# Altium schematic symbol library RPSLib.SchLib: 241 symbols (part 7 of 8)
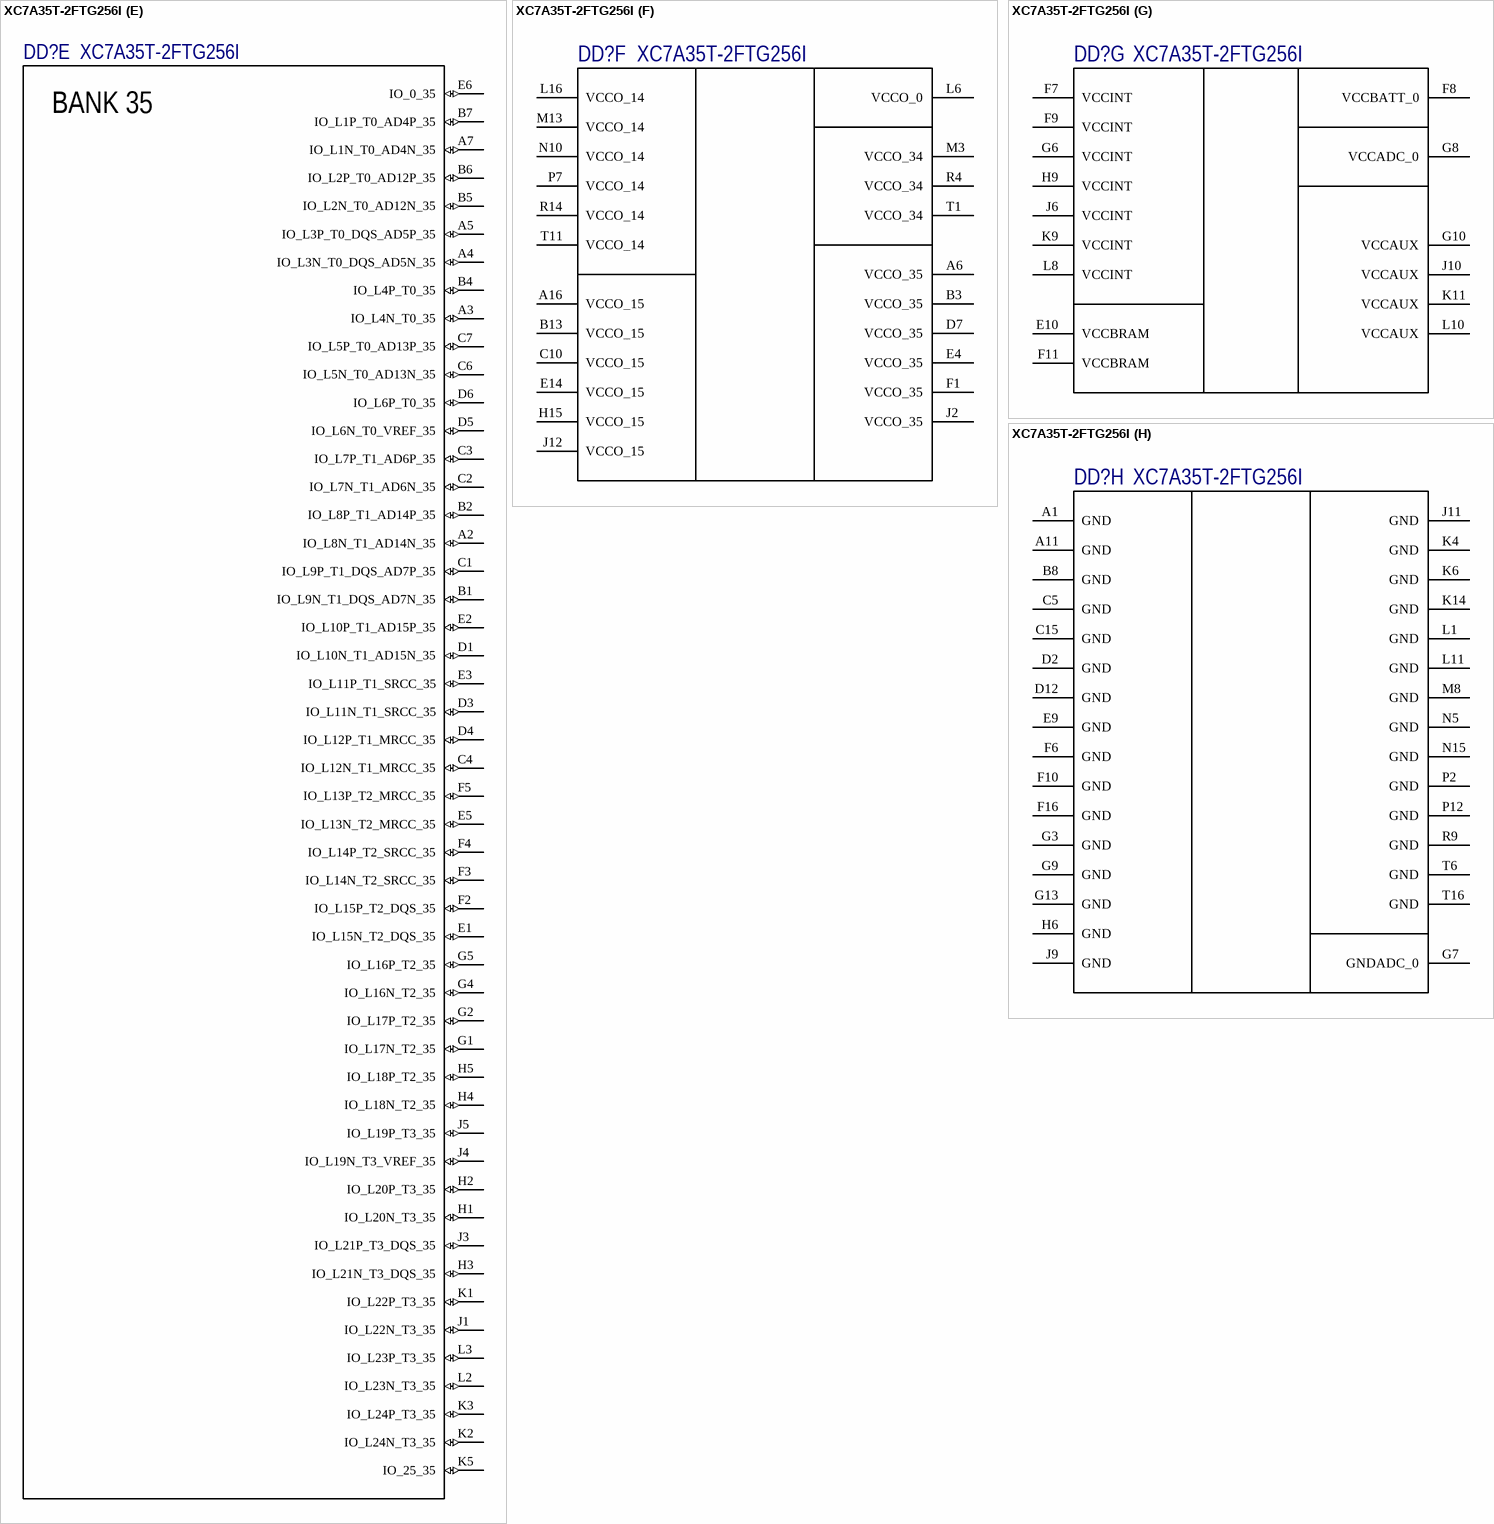
[diagram p31: symbol XC7A35T-2FTG256I]

## XC7A35T-2FTG256I
designator DD?
IC FPGA ARTIX7 170 I/O 256FTBGA; Manufacturer: Xilinx; Speed Grade: 2; Propagation Delay: 0.85ns; Number of Logic Blocks (LABs): 2600; Number of Logic Elements/Cells: 33280; RAM Size: 1843200b; Number of I/Os: 170; Min Supply Voltage: 950mV; Max Supply Voltage: 1.05V; Supplier 1: Digi-Key; Manufacturer Part Number: XC7A35T-2FTG256I; Stock 1: 1327; Pricing 1: 1=45.43 (USD); Case/Package: FBGA; Number of Pins: 256; Contact Plating: Copper,Tin,Silver; Min Operating Temperature: -40°C; Max Operating Temperature: 100°C; Turn-On Delay Time: 0.85ns; ComponentLink1URL: https://www.xilinx.com/support/documentation/data_sheets/ds180_7Series_Overview.pdf?src-supplier=Digi-Key; ComponentLink1Description: https://www.xilinx.com/support/documentation/data_sheets/ds180_7Series_Overview.pdf?src-supplier=Digi-Key; ComponentLink2URL: http://www.xilinx.com/support/documentation/data_sheets/ds181_Artix_7_Data_Sheet.pdf?src-supplier=Avnet; ComponentLink2Description: http://www.xilinx.com/support/documentation/data_sheets/ds181_Artix_7_Data_Sheet.pdf?src-supplier=Avnet; ComponentLink3URL: http://www.xilinx.com/support/documentation/data_sheets/ds181_Artix_7_Data_Sheet.pdf?src-supplier=Avnet+Asia; ComponentLink3Description: http://www.xilinx.com/support/documentation/data_sheets/ds181_Artix_7_Data_Sheet.pdf?src-supplier=Avnet+Asia; Supplier Part Number 1: 122-1912-ND
footprint BGA256C100P16X16_1700X1700X155 (BGA, 256-Leads, Body 17,00x17,00mmx1,55mm, Pitch 1,00mm)
part A pins: E7 CFGBVS_0 (in), E8 CCLK_0 (io), H7 VREFN_0 (in), H8 VP_0 (in), H10 DONE_0 (io), J7 VN_0 (in), J8 VREFP_0 (in), K7 DXN_0 (in), K8 DXP_0 (in), K10 INIT_B_0 (io), L7 TCK_0 (in), L9 PROGRAM_B_0 (in), M7 TMS_0 (in), M9 M0_0 (in), M10 M1_0 (in), M11 M2_0 (in), N7 TDI_0 (in), N8 TDO_0 (out)
part B pins: J13 IO_L1P_T0_D00_MOSI_14 (io), J14 IO_L1N_T0_D01_DIN_14 (io), K12 IO_0_14 (io), K13 IO_L5P_T0_D06_14 (io), K15 IO_L2P_T0_D02_14 (io), K16 IO_L2N_T0_D03_14 (io), L12 IO_L6P_T0_FCS_B_14 (io), L13 IO_L5N_T0_D07_14 (io), L14 IO_L4P_T0_D04_14 (io), L15 IO_L3P_T0_DQS_PUDC_B_14 (io), M6 IO_L19P_T3_A10_D26_14 (io), M12 IO_L6N_T0_D08_VREF_14 (io), M14 IO_L4N_T0_D05_14 (io), M15 IO_L3N_T0_DQS_EMCCLK_14 (io), M16 IO_L7P_T1_D09_14 (io), N6 IO_L19N_T3_A09_D25_VREF_14 (io), N9 IO_L18P_T2_A12_D28_14 (io), N11 IO_L13P_T2_MRCC_14 (io), N12 IO_L13N_T2_MRCC_14 (io), N13 IO_L11P_T1_SRCC_14 (io), N14 IO_L12P_T1_MRCC_14 (io), N16 IO_L7N_T1_D10_14 (io), P6 IO_25_14 (io), P8 IO_L20P_T3_A08_D24_14 (io), P9 IO_L18N_T2_A11_D27_14 (io), P10 IO_L14P_T2_SRCC_14 (io), P11 IO_L14N_T2_SRCC_14 (io), P13 IO_L11N_T1_SRCC_14 (io), P14 IO_L12N_T1_MRCC_14 (io), P15 IO_L8P_T1_D11_14 (io), P16 IO_L8N_T1_D12_14 (io), R5 IO_L23P_T3_A03_D19_14 (io), R6 IO_L24P_T3_A01_D17_14 (io), R7 IO_L24N_T3_A00_D16_14 (io), R8 IO_L20N_T3_A07_D23_14 (io), R10 IO_L17P_T2_A14_D30_14 (io), R11 IO_L17N_T2_A13_D29_14 (io), R12 IO_L15P_T2_DQS_RDWR_B_14 (io), R13 IO_L16P_T2_CSI_B_14 (io), R15 IO_L9P_T1_DQS_14 (io), R16 IO_L9N_T1_DQS_D13_14 (io), T5 IO_L23N_T3_A02_D18_14 (io), T7 IO_L21P_T3_DQS_14 (io), T8 IO_L21N_T3_DQS_A06_D22_14 (io), T9 IO_L22P_T3_A05_D21_14 (io), T10 IO_L22N_T3_A04_D20_14 (io), T12 IO_L15N_T2_DQS_DOUT_CSO_B_14 (io), T13 IO_L16N_T2_A15_D31_14 (io), T14 IO_L10P_T1_D14_14 (io), T15 IO_L10N_T1_D15_14 (io)
part C pins: A8 IO_L2P_T0_AD8P_15 (io), A9 IO_L2N_T0_AD8N_15 (io), A10 IO_L3N_T0_DQS_AD1N_15 (io), A12 IO_L5N_T0_AD9N_15 (io), A13 IO_L7P_T1_AD2P_15 (io), A14 IO_L7N_T1_AD2N_15 (io), A15 IO_L9N_T1_DQS_AD3N_15 (io), B9 IO_L3P_T0_DQS_AD1P_15 (io), B10 IO_L4P_T0_15 (io), B11 IO_L4N_T0_15 (io), B12 IO_L5P_T0_AD9P_15 (io), B14 IO_L8N_T1_AD10N_15 (io), B15 IO_L9P_T1_DQS_AD3P_15 (io), B16 IO_L10N_T1_AD11N_15 (io), C8 IO_L1P_T0_AD0P_15 (io), C9 IO_L1N_T0_AD0N_15 (io), C11 IO_L11P_T1_SRCC_15 (io), C12 IO_L11N_T1_SRCC_15 (io), C13 IO_L12N_T1_MRCC_15 (io), C14 IO_L8P_T1_AD10P_15 (io), C16 IO_L10P_T1_AD11P_15 (io), D8 IO_L6P_T0_15 (io), D9 IO_L6N_T0_VREF_15 (io), D10 IO_0_15 (io), D11 IO_L14N_T2_SRCC_15 (io), D13 IO_L12P_T1_MRCC_15 (io), D14 IO_L15P_T2_DQS_15 (io), D15 IO_L15N_T2_DQS_ADV_B_15 (io), D16 IO_L17N_T2_A25_15 (io), E11 IO_L14P_T2_SRCC_15 (io), E12 IO_L13P_T2_MRCC_15 (io), E13 IO_L13N_T2_MRCC_15 (io), E15 IO_L18N_T2_A23_15 (io), E16 IO_L17P_T2_A26_15 (io), F12 IO_L16P_T2_A28_15 (io), F13 IO_L16N_T2_A27_15 (io), F14 IO_L21N_T3_DQS_A18_15 (io), F15 IO_L18P_T2_A24_15 (io), G11 IO_25_15 (io), G12 IO_L19N_T3_A21_VREF_15 (io), G14 IO_L21P_T3_DQS_15 (io), G15 IO_L24N_T3_RS0_15 (io), G16 IO_L22N_T3_A16_15 (io), H11 IO_L19P_T3_A22_15 (io), H12 IO_L20P_T3_A20_15 (io), H13 IO_L20N_T3_A19_15 (io), H14 IO_L24P_T3_RS1_15 (io), H16 IO_L22P_T3_A17_15 (io), J15 IO_L23P_T3_FOE_B_15 (io), J16 IO_L23N_T3_FWE_B_15 (io)
part D pins: L4 IO_L1P_T0_34 (io), L5 IO_0_34 (io), M1 IO_L2N_T0_34 (io), M2 IO_L2P_T0_34 (io), M4 IO_L1N_T0_34 (io), M5 IO_L6P_T0_34 (io), N1 IO_L4P_T0_34 (io), N2 IO_L3N_T0_DQS_34 (io), N3 IO_L3P_T0_DQS_34 (io), N4 IO_L6N_T0_VREF_34 (io), P1 IO_L4N_T0_34 (io), P3 IO_L5N_T0_34 (io), P4 IO_L5P_T0_34 (io), P5 IO_L10P_T1_34 (io), R1 IO_L7N_T1_34 (io), R2 IO_L7P_T1_34 (io), R3 IO_L8P_T1_34 (io), T2 IO_L8N_T1_34 (io), T3 IO_L9N_T1_DQS_34 (io), T4 IO_L9P_T1_DQS_34 (io)
part E pins: A2 IO_L8N_T1_AD14N_35 (io), A3 IO_L4N_T0_35 (io), A4 IO_L3N_T0_DQS_AD5N_35 (io), A5 IO_L3P_T0_DQS_AD5P_35 (io), A7 IO_L1N_T0_AD4N_35 (io), B1 IO_L9N_T1_DQS_AD7N_35 (io), B2 IO_L8P_T1_AD14P_35 (io), B4 IO_L4P_T0_35 (io), B5 IO_L2N_T0_AD12N_35 (io), B6 IO_L2P_T0_AD12P_35 (io), B7 IO_L1P_T0_AD4P_35 (io), C1 IO_L9P_T1_DQS_AD7P_35 (io), C2 IO_L7N_T1_AD6N_35 (io), C3 IO_L7P_T1_AD6P_35 (io), C4 IO_L12N_T1_MRCC_35 (io), C6 IO_L5N_T0_AD13N_35 (io), C7 IO_L5P_T0_AD13P_35 (io), D1 IO_L10N_T1_AD15N_35 (io), D3 IO_L11N_T1_SRCC_35 (io), D4 IO_L12P_T1_MRCC_35 (io), D5 IO_L6N_T0_VREF_35 (io), D6 IO_L6P_T0_35 (io), E1 IO_L15N_T2_DQS_35 (io), E2 IO_L10P_T1_AD15P_35 (io), E3 IO_L11P_T1_SRCC_35 (io), E5 IO_L13N_T2_MRCC_35 (io), E6 IO_0_35 (io), F2 IO_L15P_T2_DQS_35 (io), F3 IO_L14N_T2_SRCC_35 (io), F4 IO_L14P_T2_SRCC_35 (io), F5 IO_L13P_T2_MRCC_35 (io), G1 IO_L17N_T2_35 (io), G2 IO_L17P_T2_35 (io), G4 IO_L16N_T2_35 (io), G5 IO_L16P_T2_35 (io), H1 IO_L20N_T3_35 (io), H2 IO_L20P_T3_35 (io), H3 IO_L21N_T3_DQS_35 (io), H4 IO_L18N_T2_35 (io), H5 IO_L18P_T2_35 (io), J1 IO_L22N_T3_35 (io), J3 IO_L21P_T3_DQS_35 (io), J4 IO_L19N_T3_VREF_35 (io), J5 IO_L19P_T3_35 (io), K1 IO_L22P_T3_35 (io), K2 IO_L24N_T3_35 (io), K3 IO_L24P_T3_35 (io), K5 IO_25_35 (io), L2 IO_L23N_T3_35 (io), L3 IO_L23P_T3_35 (io)
part F pins: A6 VCCO_35 (power), A16 VCCO_15 (power), B3 VCCO_35 (power), B13 VCCO_15 (power), C10 VCCO_15 (power), D7 VCCO_35 (power), E4 VCCO_35 (power), E14 VCCO_15 (power), F1 VCCO_35 (power), H15 VCCO_15 (power), J2 VCCO_35 (power), J12 VCCO_15 (power), L6 VCCO_0 (power), L16 VCCO_14 (power), M3 VCCO_34 (power), M13 VCCO_14 (power), N10 VCCO_14 (power), P7 VCCO_14 (power), R4 VCCO_34 (power), R14 VCCO_14 (power), T1 VCCO_34 (power), T11 VCCO_14 (power)
part G pins: E10 VCCBRAM (power), F7 VCCINT (power), F8 VCCBATT_0, F9 VCCINT (power), F11 VCCBRAM (power), G6 VCCINT (power), G8 VCCADC_0, G10 VCCAUX (power), H9 VCCINT (power), J6 VCCINT (power), J10 VCCAUX (power), K9 VCCINT (power), K11 VCCAUX (power), L8 VCCINT (power), L10 VCCAUX (power)
part H pins: A1 GND (power), A11 GND (power), B8 GND (power), C5 GND (power), C15 GND (power), D2 GND (power), D12 GND (power), E9 GND (power), F6 GND (power), F10 GND (power), F16 GND (power), G3 GND (power), G7 GNDADC_0, G9 GND (power), G13 GND (power), H6 GND (power), J9 GND (power), J11 GND (power), K4 GND (power), K6 GND (power), K14 GND (power), L1 GND (power), L11 GND (power), M8 GND (power), N5 GND (power), N15 GND (power), P2 GND (power), P12 GND (power), R9 GND (power), T6 GND (power), T16 GND (power)
part B text: BANK 14
part C text: BANK 15
part D text: BANK 34
part E text: BANK 35

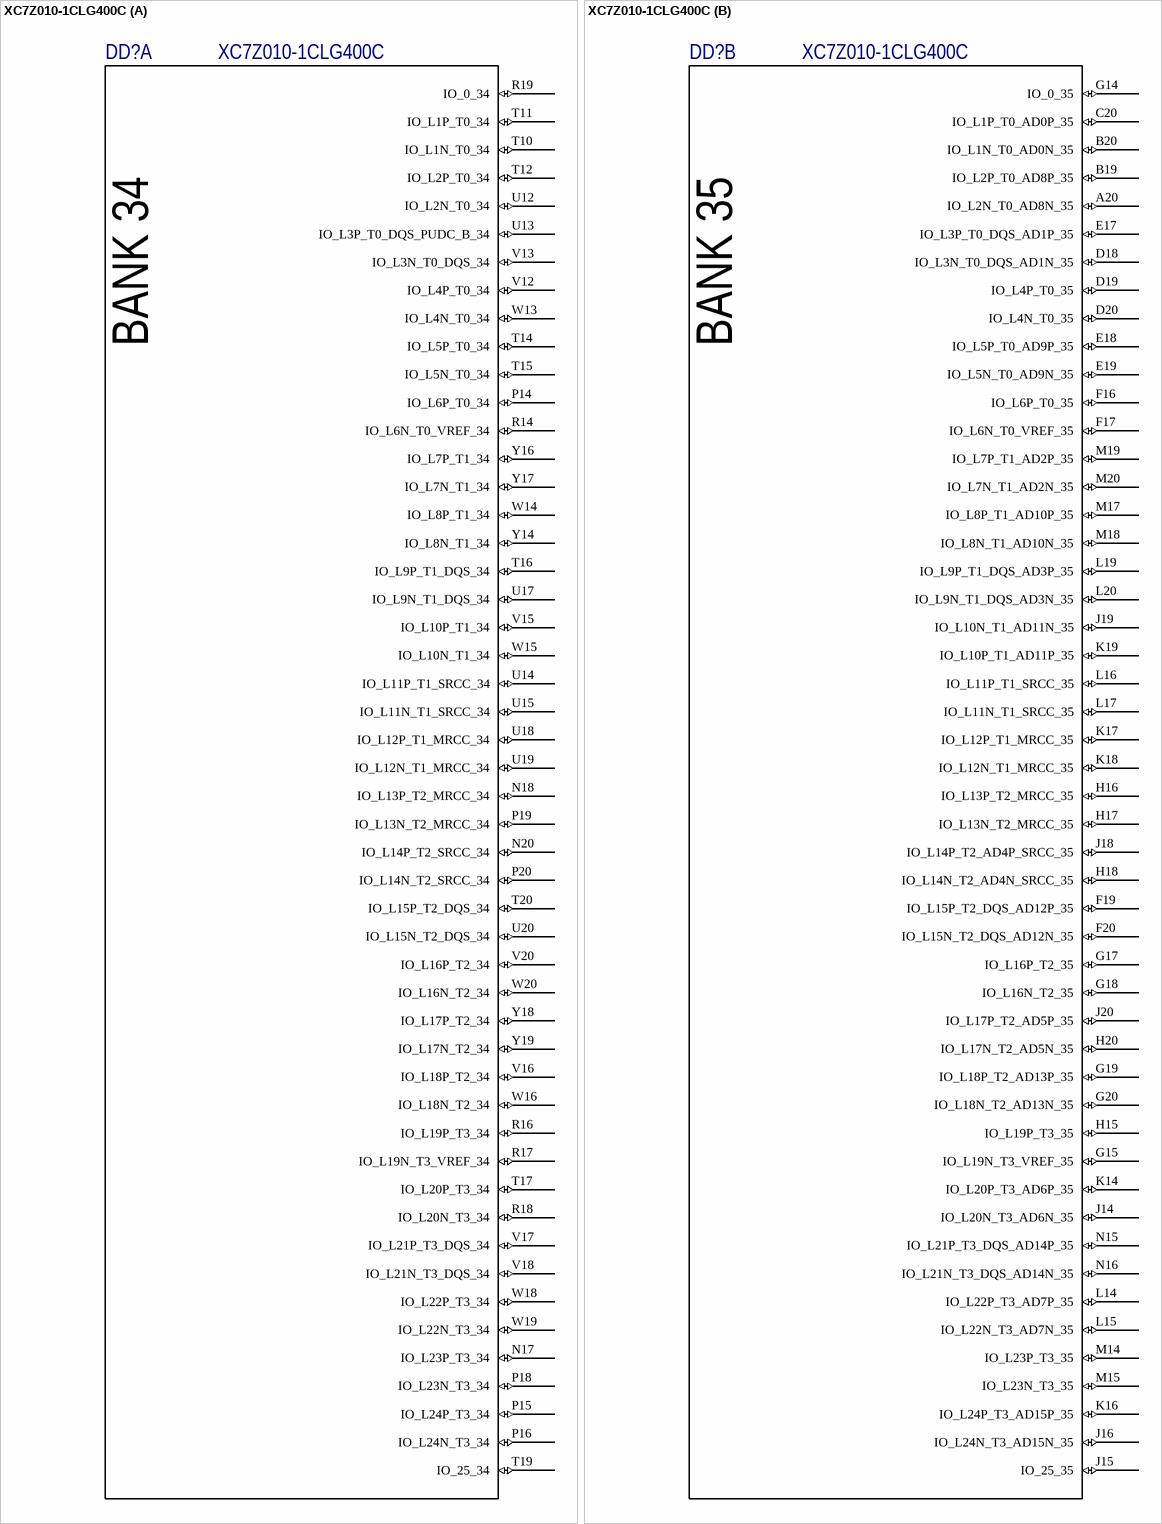
[diagram p15: symbol XC7Z010-1CLG400C]

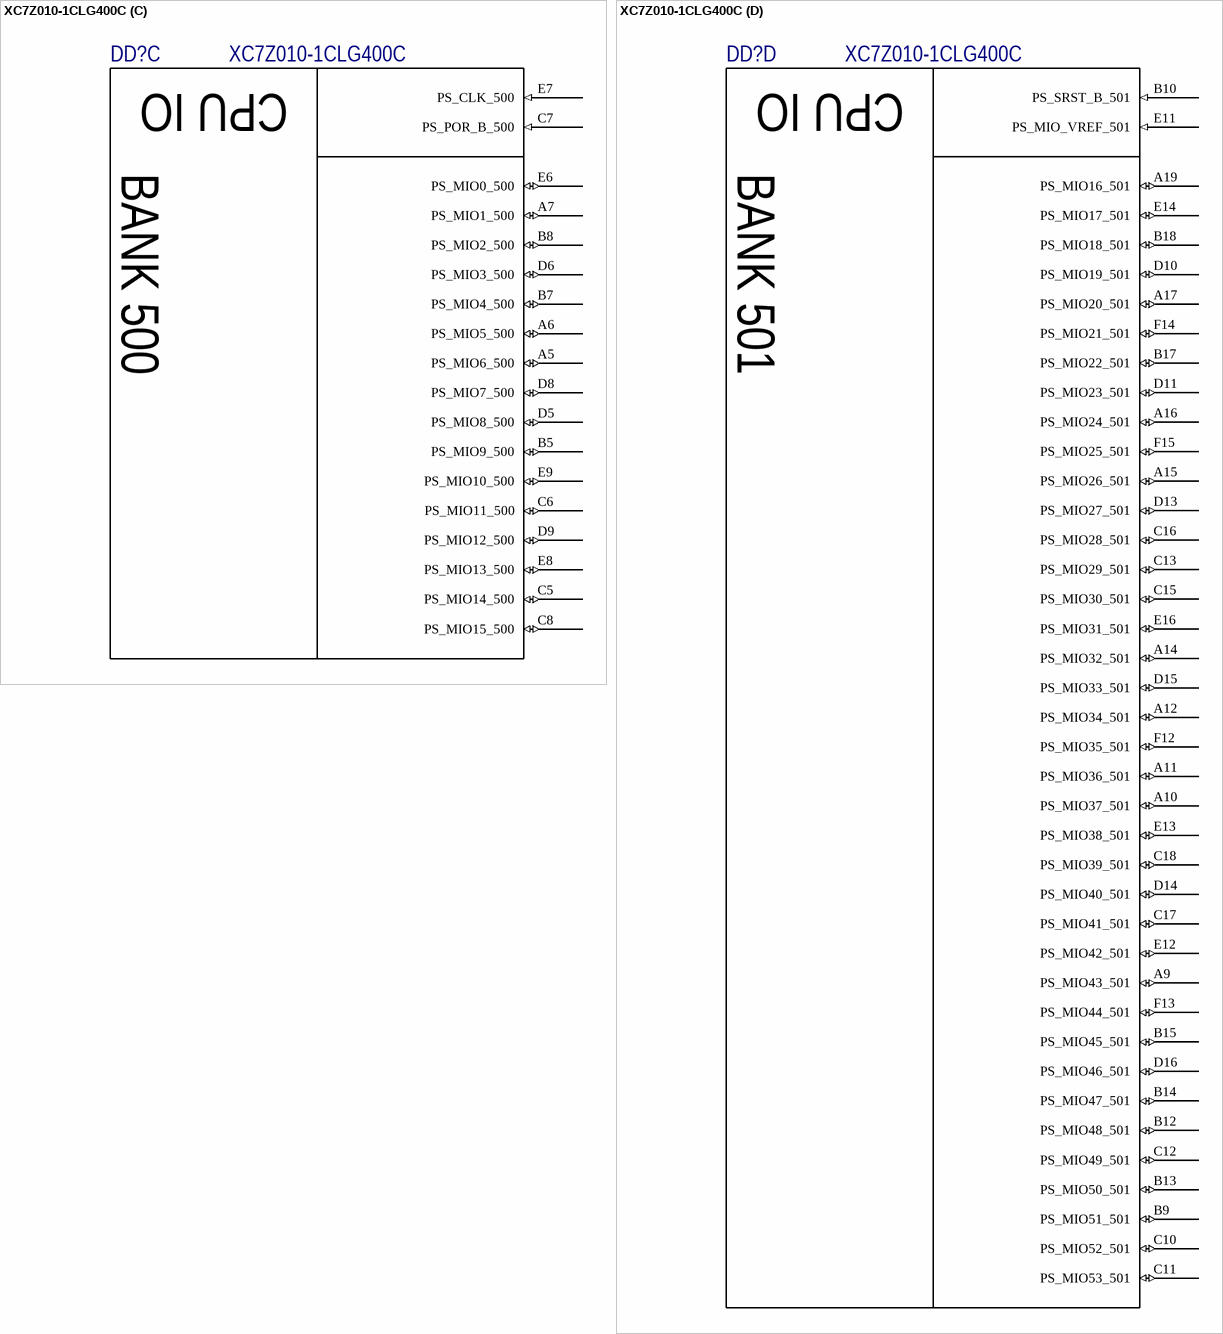
[diagram p16: symbol XC7Z010-1CLG400C]

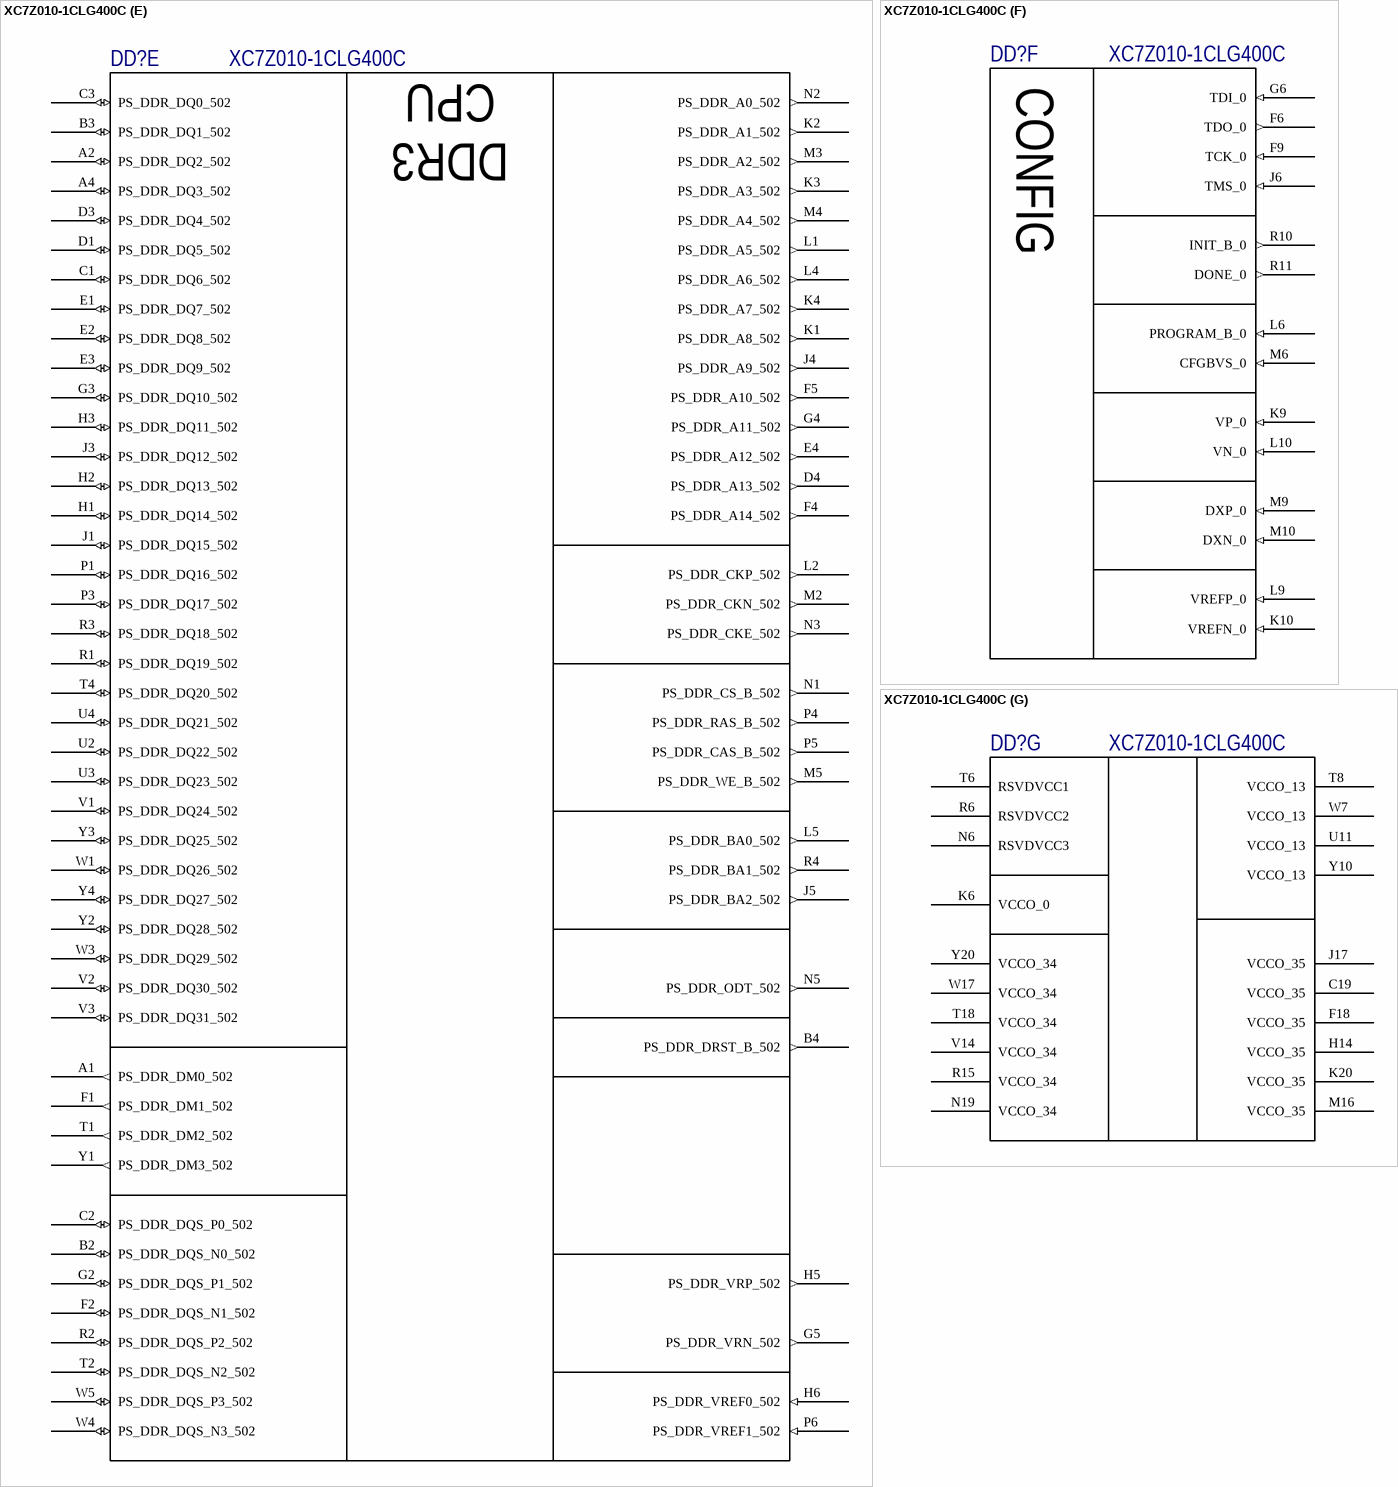
[diagram p17: symbol XC7Z010-1CLG400C]

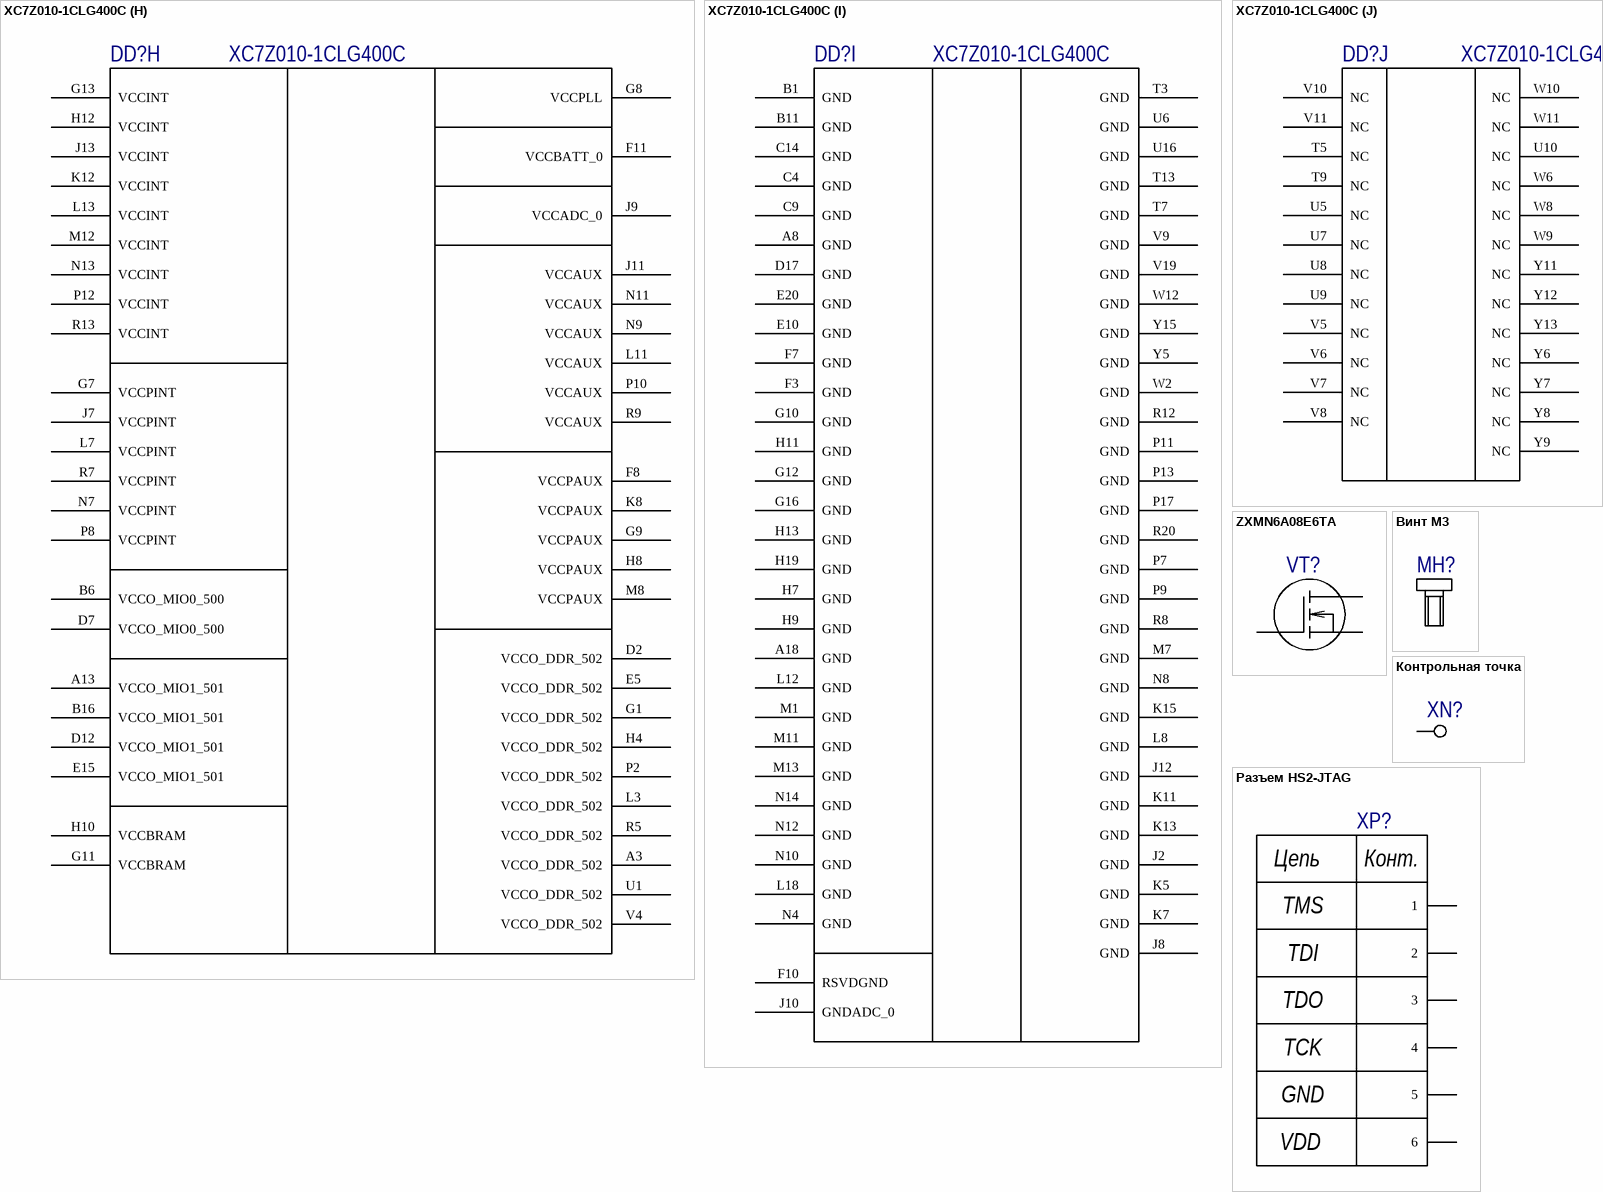
[diagram p18: symbols XC7Z010-1CLG400C to Разъем HS2-JTAG]

## XC7Z010-1CLG400C
designator DD?
IC SOC CORTEX-A9 ARTIX-7 400BGA; Manufacturer: Xilinx; Speed Grade: -1; Interface: I2C,SPI,USB,CAN,Ethernet,MMC,SDIO,SD,UART,USART,EBI/EMI; Frequency: 667MHz; Number of I/Os: 130; Data Bus Width: 32b; Peripherals: DMA; Core Architecture: ARM; Operating Supply Voltage: 1V; Supplier 1: Digi-Key; Manufacturer Part Number: XC7Z010-1CLG400C; RoHS: Yes; Category: FPGAs - Field Programmable Gate Arrays; Stock 1: 573; Pricing 1: 1=62,79000 (USD); Case/Package: BGA; Number of Pins: 400; Contact Plating: Copper,Tin,Silver; Min Operating Temperature: 0°C; Max Operating Temperature: 85°C; Packaging: Tray; Max Frequency: 667MHz; Radiation Hardening: No; ComponentLink1URL: https://datasheet.ciiva.com/48476/ds190-zynq-7000-overview-48476701.pdf?src-supplier=Avnet; ComponentLink1Description: https://datasheet.ciiva.com/48476/ds190-zynq-7000-overview-48476701.pdf?src-supplier=Avnet; Supplier Part Number 1: 122-1854-ND
footprint BGA400C80P20X20_1700X1700X160 (BGA, 400-Leads, Body 17,00x17,00mmx1,60mm, Pitch 0,80mm)
part A pins: N17 IO_L23P_T3_34 (io), N18 IO_L13P_T2_MRCC_34 (io), N20 IO_L14P_T2_SRCC_34 (io), P14 IO_L6P_T0_34 (io), P15 IO_L24P_T3_34 (io), P16 IO_L24N_T3_34 (io), P18 IO_L23N_T3_34 (io), P19 IO_L13N_T2_MRCC_34 (io), P20 IO_L14N_T2_SRCC_34 (io), R14 IO_L6N_T0_VREF_34 (io), R16 IO_L19P_T3_34 (io), R17 IO_L19N_T3_VREF_34 (io), R18 IO_L20N_T3_34 (io), R19 IO_0_34 (io), T10 IO_L1N_T0_34 (io), T11 IO_L1P_T0_34 (io), T12 IO_L2P_T0_34 (io), T14 IO_L5P_T0_34 (io), T15 IO_L5N_T0_34 (io), T16 IO_L9P_T1_DQS_34 (io), T17 IO_L20P_T3_34 (io), T19 IO_25_34 (io), T20 IO_L15P_T2_DQS_34 (io), U12 IO_L2N_T0_34 (io), U13 IO_L3P_T0_DQS_PUDC_B_34 (io), U14 IO_L11P_T1_SRCC_34 (io), U15 IO_L11N_T1_SRCC_34 (io), U17 IO_L9N_T1_DQS_34 (io), U18 IO_L12P_T1_MRCC_34 (io), U19 IO_L12N_T1_MRCC_34 (io), U20 IO_L15N_T2_DQS_34 (io), V12 IO_L4P_T0_34 (io), V13 IO_L3N_T0_DQS_34 (io), V15 IO_L10P_T1_34 (io), V16 IO_L18P_T2_34 (io), V17 IO_L21P_T3_DQS_34 (io), V18 IO_L21N_T3_DQS_34 (io), V20 IO_L16P_T2_34 (io), W13 IO_L4N_T0_34 (io), W14 IO_L8P_T1_34 (io), W15 IO_L10N_T1_34 (io), W16 IO_L18N_T2_34 (io), W18 IO_L22P_T3_34 (io), W19 IO_L22N_T3_34 (io), W20 IO_L16N_T2_34 (io), Y14 IO_L8N_T1_34 (io), Y16 IO_L7P_T1_34 (io), Y17 IO_L7N_T1_34 (io), Y18 IO_L17P_T2_34 (io), Y19 IO_L17N_T2_34 (io)
part B pins: A20 IO_L2N_T0_AD8N_35 (io), B19 IO_L2P_T0_AD8P_35 (io), B20 IO_L1N_T0_AD0N_35 (io), C20 IO_L1P_T0_AD0P_35 (io), D18 IO_L3N_T0_DQS_AD1N_35 (io), D19 IO_L4P_T0_35 (io), D20 IO_L4N_T0_35 (io), E17 IO_L3P_T0_DQS_AD1P_35 (io), E18 IO_L5P_T0_AD9P_35 (io), E19 IO_L5N_T0_AD9N_35 (io), F16 IO_L6P_T0_35 (io), F17 IO_L6N_T0_VREF_35 (io), F19 IO_L15P_T2_DQS_AD12P_35 (io), F20 IO_L15N_T2_DQS_AD12N_35 (io), G14 IO_0_35 (io), G15 IO_L19N_T3_VREF_35 (io), G17 IO_L16P_T2_35 (io), G18 IO_L16N_T2_35 (io), G19 IO_L18P_T2_AD13P_35 (io), G20 IO_L18N_T2_AD13N_35 (io), H15 IO_L19P_T3_35 (io), H16 IO_L13P_T2_MRCC_35 (io), H17 IO_L13N_T2_MRCC_35 (io), H18 IO_L14N_T2_AD4N_SRCC_35 (io), H20 IO_L17N_T2_AD5N_35 (io), J14 IO_L20N_T3_AD6N_35 (io), J15 IO_25_35 (io), J16 IO_L24N_T3_AD15N_35 (io), J18 IO_L14P_T2_AD4P_SRCC_35 (io), J19 IO_L10N_T1_AD11N_35 (io), J20 IO_L17P_T2_AD5P_35 (io), K14 IO_L20P_T3_AD6P_35 (io), K16 IO_L24P_T3_AD15P_35 (io), K17 IO_L12P_T1_MRCC_35 (io), K18 IO_L12N_T1_MRCC_35 (io), K19 IO_L10P_T1_AD11P_35 (io), L14 IO_L22P_T3_AD7P_35 (io), L15 IO_L22N_T3_AD7N_35 (io), L16 IO_L11P_T1_SRCC_35 (io), L17 IO_L11N_T1_SRCC_35 (io), L19 IO_L9P_T1_DQS_AD3P_35 (io), L20 IO_L9N_T1_DQS_AD3N_35 (io), M14 IO_L23P_T3_35 (io), M15 IO_L23N_T3_35 (io), M17 IO_L8P_T1_AD10P_35 (io), M18 IO_L8N_T1_AD10N_35 (io), M19 IO_L7P_T1_AD2P_35 (io), M20 IO_L7N_T1_AD2N_35 (io), N15 IO_L21P_T3_DQS_AD14P_35 (io), N16 IO_L21N_T3_DQS_AD14N_35 (io)
part C pins: A5 PS_MIO6_500 (io), A6 PS_MIO5_500 (io), A7 PS_MIO1_500 (io), B5 PS_MIO9_500 (io), B7 PS_MIO4_500 (io), B8 PS_MIO2_500 (io), C5 PS_MIO14_500 (io), C6 PS_MIO11_500 (io), C7 PS_POR_B_500 (in), C8 PS_MIO15_500 (io), D5 PS_MIO8_500 (io), D6 PS_MIO3_500 (io), D8 PS_MIO7_500 (io), D9 PS_MIO12_500 (io), E6 PS_MIO0_500 (io), E7 PS_CLK_500 (in), E8 PS_MIO13_500 (io), E9 PS_MIO10_500 (io)
part D pins: A9 PS_MIO43_501 (io), A10 PS_MIO37_501 (io), A11 PS_MIO36_501 (io), A12 PS_MIO34_501 (io), A14 PS_MIO32_501 (io), A15 PS_MIO26_501 (io), A16 PS_MIO24_501 (io), A17 PS_MIO20_501 (io), A19 PS_MIO16_501 (io), B9 PS_MIO51_501 (io), B10 PS_SRST_B_501 (in), B12 PS_MIO48_501 (io), B13 PS_MIO50_501 (io), B14 PS_MIO47_501 (io), B15 PS_MIO45_501 (io), B17 PS_MIO22_501 (io), B18 PS_MIO18_501 (io), C10 PS_MIO52_501 (io), C11 PS_MIO53_501 (io), C12 PS_MIO49_501 (io), C13 PS_MIO29_501 (io), C15 PS_MIO30_501 (io), C16 PS_MIO28_501 (io), C17 PS_MIO41_501 (io), C18 PS_MIO39_501 (io), D10 PS_MIO19_501 (io), D11 PS_MIO23_501 (io), D13 PS_MIO27_501 (io), D14 PS_MIO40_501 (io), D15 PS_MIO33_501 (io), D16 PS_MIO46_501 (io), E11 PS_MIO_VREF_501 (in), E12 PS_MIO42_501 (io), E13 PS_MIO38_501 (io), E14 PS_MIO17_501 (io), E16 PS_MIO31_501 (io), F12 PS_MIO35_501 (io), F13 PS_MIO44_501 (io), F14 PS_MIO21_501 (io), F15 PS_MIO25_501 (io)
part E pins: A1 PS_DDR_DM0_502 (out), A2 PS_DDR_DQ2_502 (io), A4 PS_DDR_DQ3_502 (io), B2 PS_DDR_DQS_N0_502 (io), B3 PS_DDR_DQ1_502 (io), B4 PS_DDR_DRST_B_502 (out), C1 PS_DDR_DQ6_502 (io), C2 PS_DDR_DQS_P0_502 (io), C3 PS_DDR_DQ0_502 (io), D1 PS_DDR_DQ5_502 (io), D3 PS_DDR_DQ4_502 (io), D4 PS_DDR_A13_502 (out), E1 PS_DDR_DQ7_502 (io), E2 PS_DDR_DQ8_502 (io), E3 PS_DDR_DQ9_502 (io), E4 PS_DDR_A12_502 (out), F1 PS_DDR_DM1_502 (out), F2 PS_DDR_DQS_N1_502 (io), F4 PS_DDR_A14_502 (out), F5 PS_DDR_A10_502 (out), G2 PS_DDR_DQS_P1_502 (io), G3 PS_DDR_DQ10_502 (io), G4 PS_DDR_A11_502 (out), G5 PS_DDR_VRN_502 (out), H1 PS_DDR_DQ14_502 (io), H2 PS_DDR_DQ13_502 (io), H3 PS_DDR_DQ11_502 (io), H5 PS_DDR_VRP_502 (out), H6 PS_DDR_VREF0_502 (in), J1 PS_DDR_DQ15_502 (io), J3 PS_DDR_DQ12_502 (io), J4 PS_DDR_A9_502 (out), J5 PS_DDR_BA2_502 (out), K1 PS_DDR_A8_502 (out), K2 PS_DDR_A1_502 (out), K3 PS_DDR_A3_502 (out), K4 PS_DDR_A7_502 (out), L1 PS_DDR_A5_502 (out), L2 PS_DDR_CKP_502 (out), L4 PS_DDR_A6_502 (out), L5 PS_DDR_BA0_502 (out), M2 PS_DDR_CKN_502 (out), M3 PS_DDR_A2_502 (out), M4 PS_DDR_A4_502 (out), M5 PS_DDR_WE_B_502 (out), N1 PS_DDR_CS_B_502 (out), N2 PS_DDR_A0_502 (out), N3 PS_DDR_CKE_502 (out), N5 PS_DDR_ODT_502 (out), P1 PS_DDR_DQ16_502 (io), P3 PS_DDR_DQ17_502 (io), P4 PS_DDR_RAS_B_502 (out), P5 PS_DDR_CAS_B_502 (out), P6 PS_DDR_VREF1_502 (in), R1 PS_DDR_DQ19_502 (io), R2 PS_DDR_DQS_P2_502 (io), R3 PS_DDR_DQ18_502 (io), R4 PS_DDR_BA1_502 (out), T1 PS_DDR_DM2_502 (out), T2 PS_DDR_DQS_N2_502 (io), T4 PS_DDR_DQ20_502 (io), U2 PS_DDR_DQ22_502 (io), U3 PS_DDR_DQ23_502 (io), U4 PS_DDR_DQ21_502 (io), V1 PS_DDR_DQ24_502 (io), V2 PS_DDR_DQ30_502 (io), V3 PS_DDR_DQ31_502 (io), W1 PS_DDR_DQ26_502 (io), W3 PS_DDR_DQ29_502 (io), W4 PS_DDR_DQS_N3_502 (io), W5 PS_DDR_DQS_P3_502 (io), Y1 PS_DDR_DM3_502 (out), Y2 PS_DDR_DQ28_502 (io), Y3 PS_DDR_DQ25_502 (io), Y4 PS_DDR_DQ27_502 (io)
part F pins: F6 TDO_0 (out), F9 TCK_0 (in), G6 TDI_0 (in), J6 TMS_0 (in), K9 VP_0 (in), K10 VREFN_0 (in), L6 PROGRAM_B_0 (in), L9 VREFP_0 (in), L10 VN_0 (in), M6 CFGBVS_0 (in), M9 DXP_0 (in), M10 DXN_0 (in), R10 INIT_B_0 (out), R11 DONE_0 (out)
part G pins: C19 VCCO_35 (power), F18 VCCO_35 (power), H14 VCCO_35 (power), J17 VCCO_35 (power), K6 VCCO_0 (power), K20 VCCO_35 (power), M16 VCCO_35 (power), N6 RSVDVCC3 (power), N19 VCCO_34 (power), R6 RSVDVCC2 (power), R15 VCCO_34 (power), T6 RSVDVCC1 (power), T8 VCCO_13 (power), T18 VCCO_34 (power), U11 VCCO_13 (power), V14 VCCO_34 (power), W7 VCCO_13 (power), W17 VCCO_34 (power), Y10 VCCO_13 (power), Y20 VCCO_34 (power)
part H pins: A3 VCCO_DDR_502 (power), A13 VCCO_MIO1_501 (power), B6 VCCO_MIO0_500 (power), B16 VCCO_MIO1_501 (power), D2 VCCO_DDR_502 (power), D7 VCCO_MIO0_500 (power), D12 VCCO_MIO1_501 (power), E5 VCCO_DDR_502 (power), E15 VCCO_MIO1_501 (power), F8 VCCPAUX (power), F11 VCCBATT_0 (power), G1 VCCO_DDR_502 (power), G7 VCCPINT (power), G8 VCCPLL (power), G9 VCCPAUX (power), G11 VCCBRAM (power), G13 VCCINT (power), H4 VCCO_DDR_502 (power), H8 VCCPAUX (power), H10 VCCBRAM (power), H12 VCCINT (power), J7 VCCPINT (power), J9 VCCADC_0 (power), J11 VCCAUX (power), J13 VCCINT (power), K8 VCCPAUX (power), K12 VCCINT (power), L3 VCCO_DDR_502 (power), L7 VCCPINT (power), L11 VCCAUX (power), L13 VCCINT (power), M8 VCCPAUX (power), M12 VCCINT (power), N7 VCCPINT (power), N9 VCCAUX (power), N11 VCCAUX (power), N13 VCCINT (power), P2 VCCO_DDR_502 (power), P8 VCCPINT (power), P10 VCCAUX (power), P12 VCCINT (power), R5 VCCO_DDR_502 (power), R7 VCCPINT (power), R9 VCCAUX (power), R13 VCCINT (power), U1 VCCO_DDR_502 (power), V4 VCCO_DDR_502 (power)
part I pins: A8 GND (power), A18 GND (power), B1 GND (power), B11 GND (power), C4 GND (power), C9 GND (power), C14 GND (power), D17 GND (power), E10 GND (power), E20 GND (power), F3 GND (power), F7 GND (power), F10 RSVDGND, G10 GND (power), G12 GND (power), G16 GND (power), H7 GND (power), H9 GND (power), H11 GND (power), H13 GND (power), H19 GND (power), J2 GND (power), J8 GND (power), J10 GNDADC_0, J12 GND (power), K5 GND (power), K7 GND (power), K11 GND (power), K13 GND (power), K15 GND (power), L8 GND (power), L12 GND (power), L18 GND (power), M1 GND (power), M7 GND (power), M11 GND (power), M13 GND (power), N4 GND (power), N8 GND (power), N10 GND (power), N12 GND (power), N14 GND (power), P7 GND (power), P9 GND (power), P11 GND (power), P13 GND (power), P17 GND (power), R8 GND (power), R12 GND (power), R20 GND (power), T3 GND (power), T7 GND (power), T13 GND (power), U6 GND (power), U16 GND (power), V9 GND (power), V19 GND (power), W2 GND (power), W12 GND (power), Y5 GND (power), Y15 GND (power)
part J pins: T5 NC, T9 NC, U5 NC, U7 NC, U8 NC, U9 NC, U10 NC, V5 NC, V6 NC, V7 NC, V8 NC, V10 NC, V11 NC, W6 NC, W8 NC, W9 NC, W10 NC, W11 NC, Y6 NC, Y7 NC, Y8 NC, Y9 NC, Y11 NC, Y12 NC, Y13 NC
part A text: BANK 34
part B text: BANK 35
part C text: CPU IO; BANK 500
part D text: CPU IO; BANK 501
part E text: CPU; DDR3
part F text: CONFIG

## ZXMN6A08E6TA
designator VT?  (value not drawn)
MOSFET N-CH 60V 2.8A SOT23-6; Manufacturer: Diodes Zetex; Rise Time: 2.1ns; Continuous Drain Current (ID): 3.5A; Gate to Source Voltage (Vgs): 20V; Turn-Off Delay Time: 12.3ns; Turn-On Delay Time: 2.6ns; Rds On Max: 80mR; Input Capacitance: 459pF; Number of Elements: 1; Max Power Dissipation: 1.1W; Drain to Source Resistance: 150mR; Power Dissipation: 1.7W; Element Configuration: Single; Current Rating: 2.5A; Supplier 1: Digi-Key; Manufacturer Part Number: ZXMN6A08E6TA; RoHS: Yes; Category: MOSFETs; Stock 1: 106764; Pricing 1: 1=0,82000, 10=0,72100, 25=0,67720, 100=0,49140, 250=0,47392, 500=0,41060, 1000=0,34944 (USD); Mount: Surface Mount; Case/Package: SOT-23-6; Number of Pins: 6; Weight: 0.000529oz; Min Operating Temperature: -55°C; Max Operating Temperature: 150°C; Fall Time: 2.1ns; Package Quantity: 3000; Packaging: Tape and Reel; Number of Channels: 1; Drain to Source Voltage (Vdss): 60V; On-State Resistance: 80mR; Voltage Rating (DC): 60V; Drain to Source Breakdown Voltage: 60V; Length: 3.1mm; Height: 1.3mm; Width: 1.8mm; Radiation Hardening: No; Lead Free: Lead Free; REACH SVHC: No SVHC; ComponentLink1URL: https://datasheet.ciiva.com/16993/0900766b80d2ef9f-16993634.pdf?src-supplier=Allied+Electronics; ComponentLink1Description: https://datasheet.ciiva.com/16993/0900766b80d2ef9f-16993634.pdf?src-supplier=Allied+Electronics; ComponentLink2URL: https://datasheet.ciiva.com/16386/zxmn6a08e6-16386230.pdf?src-supplier=Future+Electronics; ComponentLink2Description: https://datasheet.ciiva.com/16386/zxmn6a08e6-16386230.pdf?src-supplier=Future+Electronics; ComponentLink3URL: https://datasheet.ciiva.com/935/zxmn6a08e6-935608.pdf?src-supplier=Digi-Key; ComponentLink3Description: https://datasheet.ciiva.com/935/zxmn6a08e6-935608.pdf?src-supplier=Digi-Key; ComponentLink4URL: https://datasheet.ciiva.com/935/zxmn6a08e6-935609.pdf?src-supplier=Digi-Key; ComponentLink4Description: https://datasheet.ciiva.com/935/zxmn6a08e6-935609.pdf?src-supplier=Digi-Key; ComponentLink5URL: https://datasheet.ciiva.com/935/zxmn6a08e6-935610.pdf?src-supplier=Digi-Key; ComponentLink5Description: https://datasheet.ciiva.com/935/zxmn6a08e6-935610.pdf?src-supplier=Digi-Key; Supplier Part Number 1: ZXMN6A08E6CT-ND
footprint SOT95P280X110-6N_ZXMN6A08 (SOT23, 6-Leads, Body 2,90x2,80mm, Pitch 0,95mm, IPC Medium Density)
pins: D, G, S
1 alternate drawing of the same symbol

## Винт М3
designator MH?  (value not drawn)
footprint Винт М3

## Контрольная точка
designator XN?  (value not drawn)  (no BOM)
footprint ControlPoint_1.0 (Контрольная точка d 1.0)
footprint ControlPoint_1.5 (Контрольная точка d 1.5)
footprint ControlPoint_2.0 (Контрольная точка d 2.0)
pins: 1

## Разъем HS2-JTAG
designator XP?
Digilent PMOD разъем. 1 ряд, 6 контактов; Manufacturer: *; Manufacturer Part Number: *
footprint PMOD-6 (Digilent PMOD connector 6 pin)
pins: 1, 2, 3, 4, 5, 6
text: Цепь; Конт.; TMS; TDI; TDO; TCK; GND; VDD

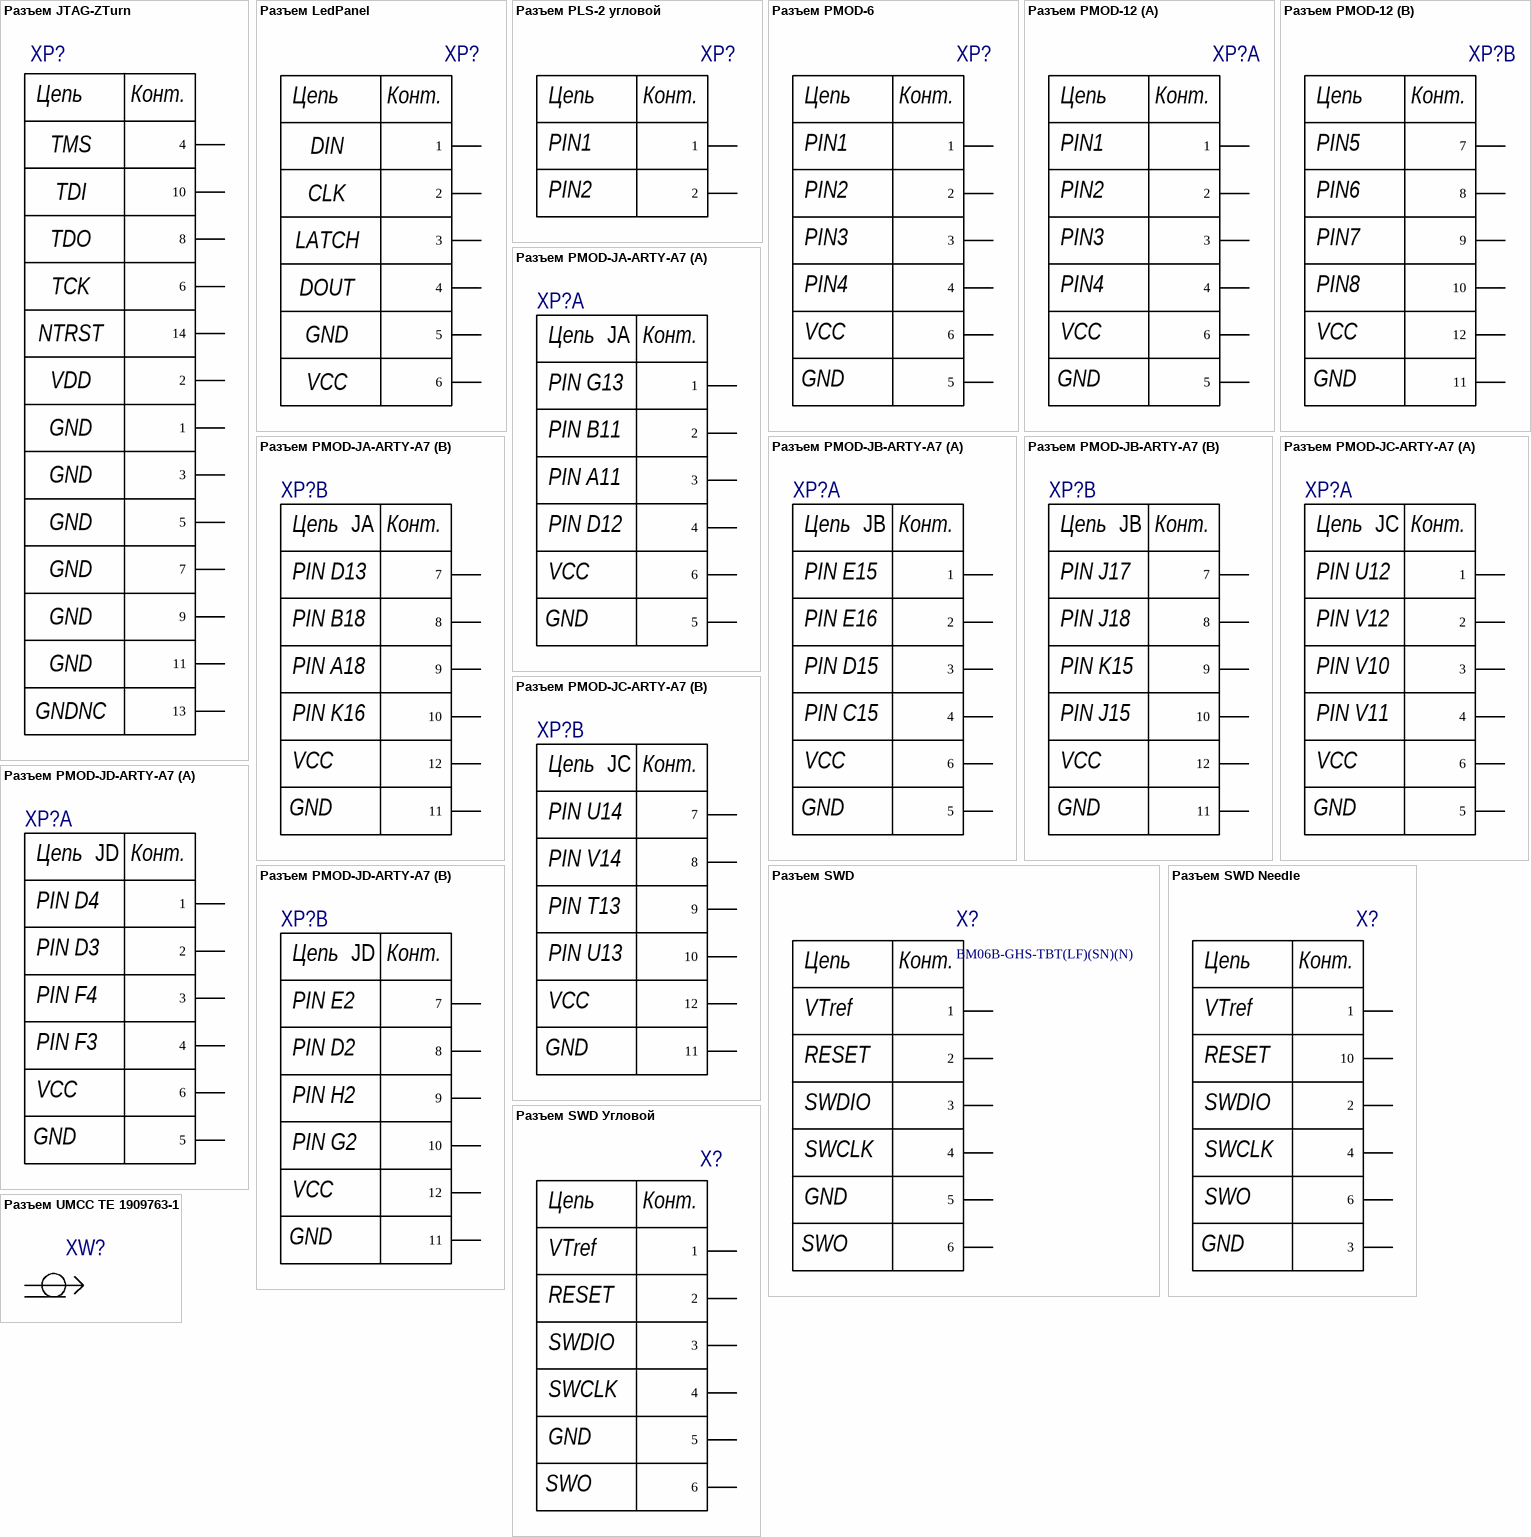
[diagram p19: symbols Разъем JTAG-ZTurn to Разъем UMCC TE 1909763-1]

## Разъем JTAG-ZTurn
designator XP?
Разъем для печатающей головы; Max Current Rating: 3A; Number of Positions: 20; Max Voltage Rating (AC): 50V; Pitch: 0.100inch; Supplier 1: Digi-Key; Min Operating Temperature: -25°C; Max Operating Temperature: 85°C; Number of Rows: 2
footprint IDC-14 (2.54 мм разъем)
pins: 1, 2, 3, 4 (power), 5, 6, 7, 8, 9, 10 (power), 11 (power), 13 (power), 14
text: Цепь; Конт.; TMS; TDI; TDO; TCK; NTRST; VDD; GND; GNDNC

## Разъем LedPanel
designator XP?, comment BM06B-SRSS-TB(LF)(SN)  (value not drawn)
1 mm Pitch 6 Position SMT Single Row Top Entry Shrouded Header; Manufacturer: JST; Number of Positions: 6; Connector Type: Male Pin; Contact Resistance: 20mR; Current Rating: 1A; Voltage Rating (AC): 50V; Insulation Resistance: 100MR; Gender: Male; Pitch: 0.039inch; Supplier 1: Digi-Key; Manufacturer Part Number: BM06B-SRSS-TB(LF)(SN); RoHS: Yes; Category: Connectors; Stock 1: 15679; Pricing 1: 1=0,76000, 10=0,67200, 100=0,57970, 500=0,47428 (USD); Mount: Surface Mount; Contact Plating: Tin,Lead; Contact Material: Copper Alloy; Color: Natural; Housing Color: Natural; Housing Material: Nylon; Material: Polyamide; Min Operating Temperature: -25°C; Max Operating Temperature: 85°C; Number of Rows: 1; Packaging: Tape and Reel; Termination: Solder; Number of Contacts: 6; Orientation: Straight; Voltage Rating: 50V; Lead Pitch: 1mm; Lead Free: Lead Free; REACH SVHC: No SVHC; Flammability Rating: UL94 V-0; ComponentLink1URL: https://datasheet.ciiva.com/11752/0900766b80849807-11752119.pdf?src-supplier=RSComponents; ComponentLink1Description: https://datasheet.ciiva.com/11752/0900766b80849807-11752119.pdf?src-supplier=RSComponents; ComponentLink2URL: https://datasheet.ciiva.com/8052/1393414-8052086.pdf?src-supplier=Element14; ComponentLink2Description: https://datasheet.ciiva.com/8052/1393414-8052086.pdf?src-supplier=Element14; ComponentLink3URL: https://datasheet.ciiva.com/712/esr-712587.pdf?src-supplier=Digi-Key; ComponentLink3Description: https://datasheet.ciiva.com/712/esr-712587.pdf?src-supplier=Digi-Key; ComponentLink4URL: https://datasheet.ciiva.com/712/esr-712588.pdf?src-supplier=Digi-Key; ComponentLink4Description: https://datasheet.ciiva.com/712/esr-712588.pdf?src-supplier=Digi-Key; ComponentLink5URL: https://datasheet.ciiva.com/730/esr-730652.pdf?src-supplier=Digi-Key; ComponentLink5Description: https://datasheet.ciiva.com/730/esr-730652.pdf?src-supplier=Digi-Key; ComponentLink6URL: https://datasheet.ciiva.com/16419/esr-16419212.pdf?src-supplier=Future+Electronics; ComponentLink6Description: https://datasheet.ciiva.com/16419/esr-16419212.pdf?src-supplier=Future+Electronics; Supplier Part Number 1: 455-1792-1-ND
footprint BM06B-SRSS-TB(LF)(SN) (JST 1.0 mm pitch connector)
pins: 1, 2, 3, 4, 5, 6
text: Цепь; Конт.; DIN; CLK; LATCH; DOUT; GND; VCC

## Разъем PLS-2 угловой
designator XP?
PLS разъем. 1 ряд, 2 контакта, угловой; Manufacturer: *; Manufacturer Part Number: *
footprint PLS-2 angle (Разъем PLS 2 контакта, угловой)
pins: 1, 2
text: Цепь; Конт.; PIN1; PIN2

## Разъем PMOD-6
designator XP?
Digilent PMOD разъем. 1 ряд, 6 контактов; Manufacturer: *; Manufacturer Part Number: *
footprint PMOD-6 (Digilent PMOD connector 6 pin)
pins: 1, 2, 3, 4, 5, 6
text: Цепь; Конт.; PIN1; PIN2; PIN3; PIN4; VCC; GND

## Разъем PMOD-12
designator XP?
Digilent PMOD разъем. 1 ряд, 6 контактов; Manufacturer: *; Manufacturer Part Number: *
footprint PMOD-12 (Digilent PMOD connector 12 pin)
part A pins: 1, 2, 3, 4, 5, 6
part B pins: 7, 8, 9, 10, 11, 12
part A text: Цепь; Конт.; PIN1; PIN2; PIN3; PIN4; VCC; GND
part B text: Цепь; Конт.; PIN5; PIN6; PIN7; PIN8; VCC; GND

## Разъем PMOD-JA-ARTY-A7
designator XP?
Digilent PMOD разъем. 1 ряд, 6 контактов; Manufacturer: *; Manufacturer Part Number: *
footprint PMOD-12 (Digilent PMOD connector 12 pin)
part A pins: 1, 2, 3, 4, 5, 6
part B pins: 7, 8, 9, 10, 11, 12
part A text: Цепь; JA; Конт.; PIN G13; PIN B11; PIN A11; PIN D12; VCC; GND
part B text: Цепь; JA; Конт.; PIN D13; PIN B18; PIN A18; PIN K16; VCC; GND

## Разъем PMOD-JB-ARTY-A7
designator XP?
Digilent PMOD разъем. 1 ряд, 6 контактов; Manufacturer: *; Manufacturer Part Number: *
footprint PMOD-12 (Digilent PMOD connector 12 pin)
part A pins: 1, 2, 3, 4, 5, 6
part B pins: 7, 8, 9, 10, 11, 12
part A text: Цепь; JB; Конт.; PIN E15; PIN E16; PIN D15; PIN C15; VCC; GND
part B text: Цепь; JB; Конт.; PIN J17; PIN J18; PIN K15; PIN J15; VCC; GND

## Разъем PMOD-JC-ARTY-A7
designator XP?
Digilent PMOD разъем. 1 ряд, 6 контактов; Manufacturer: *; Manufacturer Part Number: *
footprint PMOD-12 (Digilent PMOD connector 12 pin)
part A pins: 1, 2, 3, 4, 5, 6
part B pins: 7, 8, 9, 10, 11, 12
part A text: Цепь; JC; Конт.; PIN U12; PIN V12; PIN V10; PIN V11; VCC; GND
part B text: Цепь; JC; Конт.; PIN U14; PIN V14; PIN T13; PIN U13; VCC; GND

## Разъем PMOD-JD-ARTY-A7
designator XP?
Digilent PMOD разъем. 1 ряд, 6 контактов; Manufacturer: *; Manufacturer Part Number: *
footprint PMOD-12 (Digilent PMOD connector 12 pin)
part A pins: 1, 2, 3, 4, 5, 6
part B pins: 7, 8, 9, 10, 11, 12
part A text: Цепь; JD; Конт.; PIN D4; PIN D3; PIN F4; PIN F3; VCC; GND
part B text: Цепь; JD; Конт.; PIN E2; PIN D2; PIN H2; PIN G2; VCC; GND

## Разъем SWD
designator X?, comment BM06B-GHS-TBT(LF)(SN)(N)
SWD отладка; Manufacturer: JST; Max Current Rating: 1A; Contact Resistance: 50mR; Number of Positions: 6; Max Voltage Rating (AC): 50V; Connector Type: Outer Shroud Contact; Pitch: 0.049inch; PartNo: BM06B-GHS-TBT(LF)(SN)(N); Supplier 1: Digi-Key; Supplier Part Number 1: 455-1582-1-ND; Manufacturer Part Number: BM06B-GHS-TBT(LF)(SN)(N); Stock 1: 44065; Pricing 1: 1=0.56, 10=0.524, 100=0.4019, 500=0.34948, 1000=0.28832 (USD); Mount: Surface Mount; Colour: Natural; Contact Plating: Copper,Tin; Contact Material: Bronze; Housing Colour: Beige; Housing Material: Polyamide; Min Operating Temperature: -25°C; Max Operating Temperature: 85°C; Number of Rows: 1; Fastening Type: Ramp; Packaging: Tape and Reel; Termination: Solder; Orientation: Straight; Length: 10.75mm; Depth: 4.25mm; Lead Free: Lead Free; ComponentLink1URL: http://www.jst-mfg.com/product/pdf/eng/eGH.pdf; ComponentLink1Description: http://www.jst-mfg.com/product/pdf/eng/eGH.pdf
footprint BM06B-GH
pins: 1, 2, 3, 4, 5, 6
text: Цепь; Конт.; VTref; RESET; SWDIO; SWCLK; GND; SWO

## Разъем SWD Needle
designator X?  (no BOM)
SWD отладка
footprint J-Link Needle 10 pin
pins: 1, 2, 3, 4, 6, 10
text: Цепь; Конт.; VTref; RESET; SWDIO; SWCLK; SWO; GND

## Разъем SWD Угловой
designator X?
SWD отладка; Manufacturer: JST; Manufacturer Part Number: SM06B-GHS-TB(LF)(SN); Number of Positions: 6; Connector Type: Outer Shroud Contact; Current Rating: 1A; Voltage Rating: 50V; Contact Resistance: 50mR; Pitch: 1.25mm; Supplier 1: Digi-Key; Stock 1: 0; Mount: Surface Mount; Contact Plating: Copper,Tin; Colour: Natural; Contact Material: Bronze; Housing Colour: Beige; Housing Material: Polyamide; Min Operating Temperature: -25°C; Max Operating Temperature: 85°C; Number of Rows: 1; Packaging: Tape and Reel; Termination: Solder; Fastening Type: Ramp; Number of Contacts: 6; Orientation: Right Angle; Max Current Rating: 1A; Max Voltage Rating (AC): 50V; Length: 10.75mm; Depth: 4.05mm; Lead Free: Lead Free; Supplier Part Number 1: 455-1568-1-ND
footprint SM06B-GHS-TB
pins: 1, 2, 3, 4, 5, 6
text: Цепь; Конт.; VTref; RESET; SWDIO; SWCLK; GND; SWO

## Разъем UMCC TE 1909763-1
designator XW?, comment TE 1909763-1  (value not drawn)
Разъем UMCC, микрополосок; Manufacturer: TE Connectivity AMP; Body Material: Liquid Crystal Polymer,Polymer; Body Plating: Gold; Dielectric Material: Polymer; Impedance: 50R; Max Frequency: 6GHz; Connector Type: Jack; Gender: Female; Connector System: Cable-to-Board; Number of Positions: 1; Sealable: No (Without); РКД Наименование: 1909763-1 - UMCC разъем, TE Connectivity; Supplier 1: Digi-Key; Manufacturer Part Number: 1909763-1; Stock 1: 119207; Pricing 1: 1=0.5, 10=0.472, 100=0.3615, 500=0.3144, 1000=0.2594 (USD); Mount: Panel; Case/Package: SMD/SMT; Contact Plating: Gold; Contact Material: Copper Alloy; Housing Color: Beige; Insulation Material: Thermoplastic; Min Operating Temperature: -40°C; Max Operating Temperature: 194°C; Packaging: Tape and Reel; Package Quantity: 1; Fastening Type: Pull,Push; Termination: SMD/SMT; Orientation: Straight; Frequency: 6GHz; Length: 3mm; Radiation Hardening: No; ELV: Compliant; Lead Free: Lead Free; ComponentLink1URL: http://www.te.com/commerce/DocumentDelivery/DDEController?Action=showdoc&DocId=Customer+Drawing%7F1909763%7FB%7Fpdf%7FEnglish%7FENG_CD_1909763_B.pdf%7F1909763-1&src-supplier=Future+Electronics; ComponentLink1Description: http://www.te.com/commerce/DocumentDelivery/DDEController?Action=showdoc&DocId=Customer+Drawing%7F1909763%7FB%7Fpdf%7FEnglish%7FENG_CD_1909763_B.pdf%7F1909763-1&src-supplier=Future+Electronics; ComponentLink2URL: http://www.te.com/commerce/DocumentDelivery/DDEController?Action=showdoc&DocId=Customer+Drawing%7F1909763%7FB%7Fpdf%7FEnglish%7FENG_CD_1909763_B.pdf%7F1909763-1&src-supplier=Avnet+Asia; ComponentLink2Description: http://www.te.com/commerce/DocumentDelivery/DDEController?Action=showdoc&DocId=Customer+Drawing%7F1909763%7FB%7Fpdf%7FEnglish%7FENG_CD_1909763_B.pdf%7F1909763-1&src-supplier=Avnet+Asia; ComponentLink3URL: http://www.te.com/commerce/DocumentDelivery/DDEController?Action=showdoc&DocId=Customer+Drawing%7F1909763%7FB%7Fpdf%7FEnglish%7FENG_CD_1909763_B.pdf%7F1909763-1&src-supplier=Avnet; ComponentLink3Description: http://www.te.com/commerce/DocumentDelivery/DDEController?Action=showdoc&DocId=Customer+Drawing%7F1909763%7FB%7Fpdf%7FEnglish%7FENG_CD_1909763_B.pdf%7F1909763-1&src-supplier=Avnet; ComponentLink4URL: https://www.te.com/commerce/DocumentDelivery/DDEController?Action=srchrtrv&DocNm=1909763&DocType=Customer+Drawing&DocLang=English&src-supplier=Digi-Key; ComponentLink4Description: https://www.te.com/commerce/DocumentDelivery/DDEController?Action=srchrtrv&DocNm=1909763&DocType=Customer+Drawing&DocLang=English&src-supplier=Digi-Key; Supplier Part Number 1: A118077CT-ND
footprint UMCC TE 1909763-1
pins: 1, 2
1 alternate drawing of the same symbol

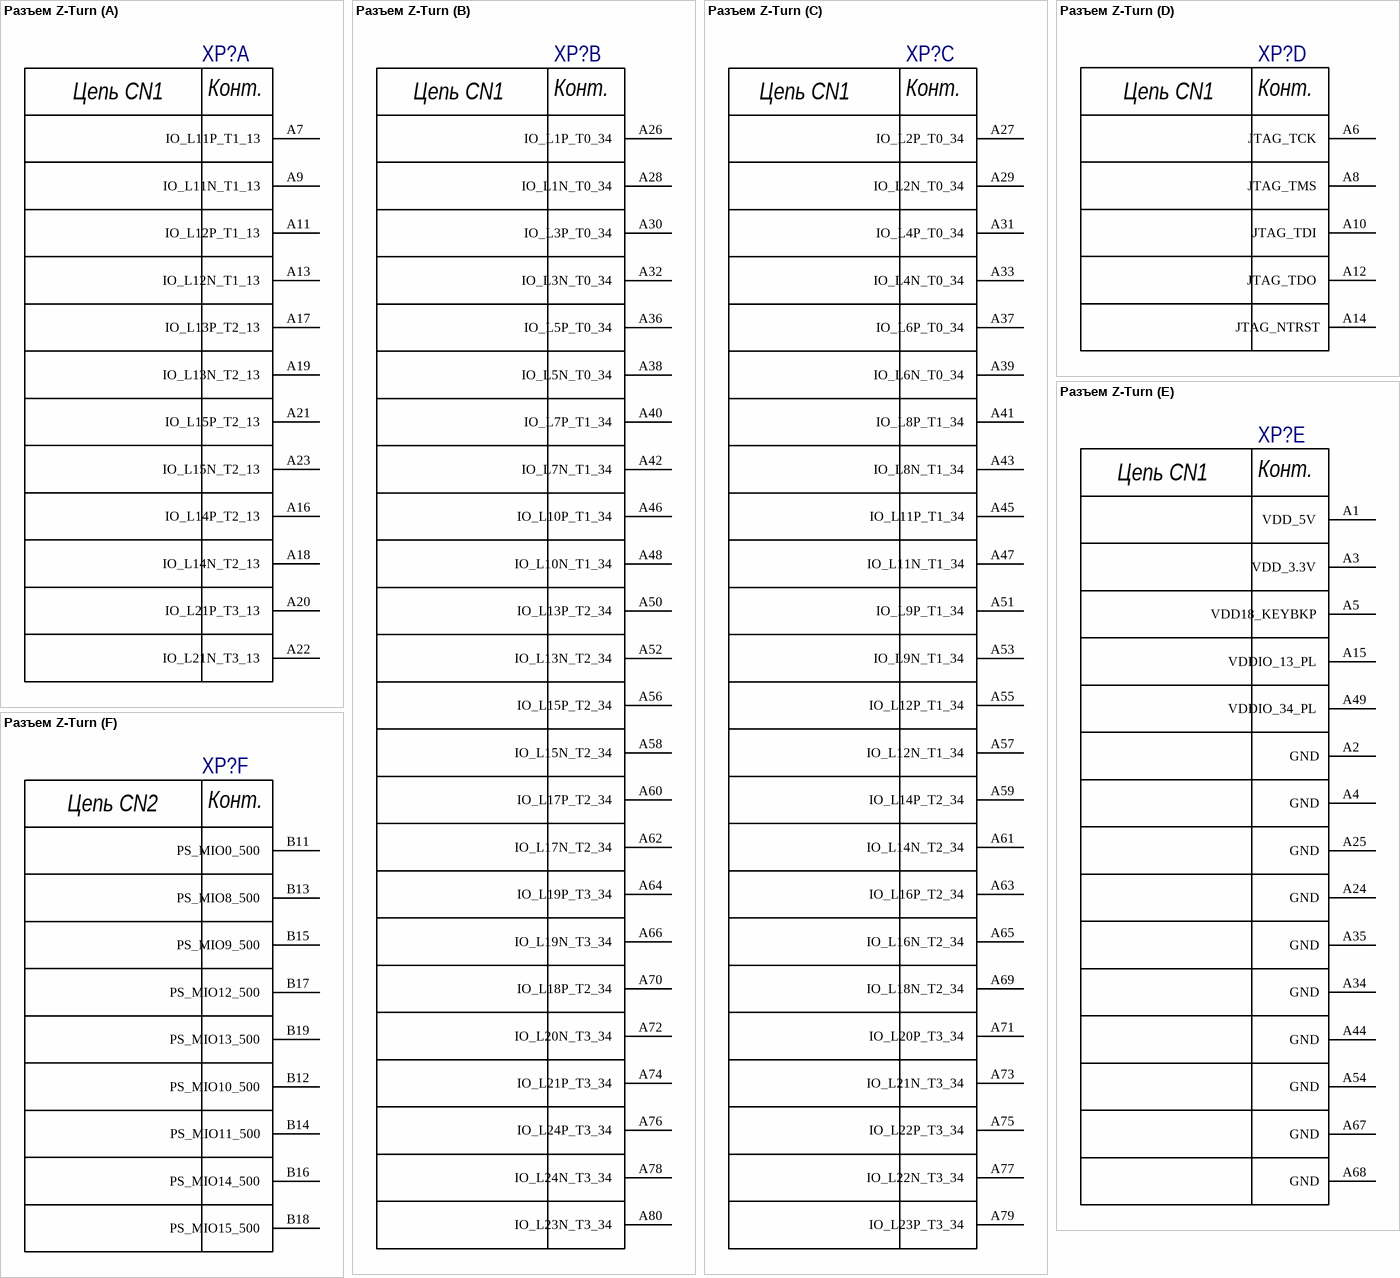
[diagram p20: symbol Разъем Z-Turn]

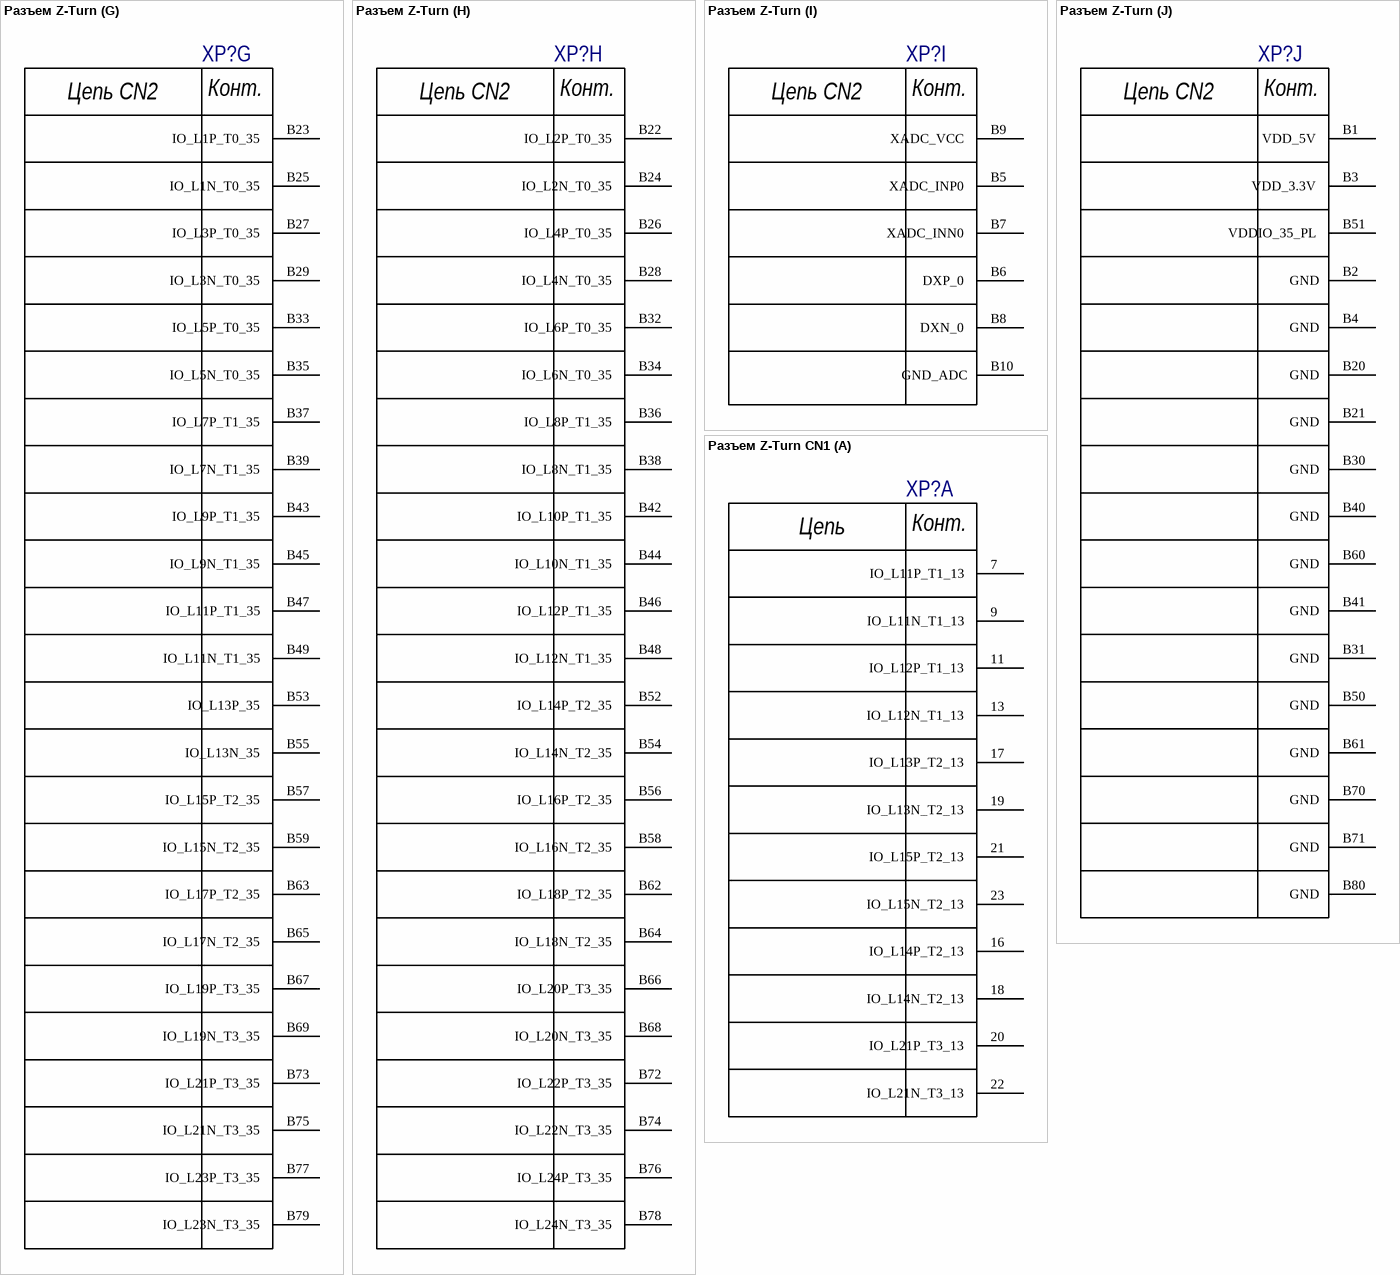
[diagram p21: symbols Разъем Z-Turn to Разъем Z-Turn CN1]

## Разъем Z-Turn
designator XP?
Разъем для платы Z-Turn, штыри 1,27 мм шаг; Manufacturer: *; Manufacturer Part Number: *
footprint ZTurn
part A pins: A7 IO_L11P_T1_13 , A9 IO_L11N_T1_13 , A11 IO_L12P_T1_13 , A13 IO_L12N_T1_13 , A16 IO_L14P_T2_13 , A17 IO_L13P_T2_13 , A18 IO_L14N_T2_13 , A19 IO_L13N_T2_13 , A20 IO_L21P_T3_13 , A21 IO_L15P_T2_13 , A22 IO_L21N_T3_13 , A23 IO_L15N_T2_13 
part B pins: A26 IO_L1P_T0_34 , A28 IO_L1N_T0_34 , A30 IO_L3P_T0_34 , A32 IO_L3N_T0_34 , A36 IO_L5P_T0_34 , A38 IO_L5N_T0_34 , A40 IO_L7P_T1_34 , A42 IO_L7N_T1_34 , A46 IO_L10P_T1_34 , A48 IO_L10N_T1_34 , A50 IO_L13P_T2_34 , A52 IO_L13N_T2_34 , A56 IO_L15P_T2_34 , A58 IO_L15N_T2_34 , A60 IO_L17P_T2_34 , A62 IO_L17N_T2_34 , A64 IO_L19P_T3_34 , A66 IO_L19N_T3_34 , A70 IO_L18P_T2_34 , A72 IO_L20N_T3_34 , A74 IO_L21P_T3_34 , A76 IO_L24P_T3_34 , A78 IO_L24N_T3_34 , A80 IO_L23N_T3_34 
part C pins: A27 IO_L2P_T0_34 , A29 IO_L2N_T0_34 , A31 IO_L4P_T0_34 , A33 IO_L4N_T0_34 , A37 IO_L6P_T0_34 , A39 IO_L6N_T0_34 , A41 IO_L8P_T1_34 , A43 IO_L8N_T1_34 , A45 IO_L11P_T1_34 , A47 IO_L11N_T1_34 , A51 IO_L9P_T1_34 , A53 IO_L9N_T1_34 , A55 IO_L12P_T1_34 , A57 IO_L12N_T1_34 , A59 IO_L14P_T2_34 , A61 IO_L14N_T2_34 , A63 IO_L16P_T2_34 , A65 IO_L16N_T2_34 , A69 IO_L18N_T2_34 , A71 IO_L20P_T3_34 , A73 IO_L21N_T3_34 , A75 IO_L22P_T3_34 , A77 IO_L22N_T3_34 , A79 IO_L23P_T3_34 
part D pins: A6 JTAG_TCK , A8 JTAG_TMS , A10 JTAG_TDI , A12 JTAG_TDO , A14 JTAG_NTRST
part E pins: A1 VDD_5V , A2 GND, A3 VDD_3.3V , A4 GND, A5 VDD18_KEYBKP , A15 VDDIO_13_PL , A24 GND, A25 GND, A34 GND, A35 GND, A44 GND, A49 VDDIO_34_PL , A54 GND, A67 GND, A68 GND
part F pins: B11 PS_MIO0_500 , B12 PS_MIO10_500 , B13 PS_MIO8_500 , B14 PS_MIO11_500 , B15 PS_MIO9_500 , B16 PS_MIO14_500 , B17 PS_MIO12_500 , B18 PS_MIO15_500 , B19 PS_MIO13_500 
part G pins: B23 IO_L1P_T0_35 , B25 IO_L1N_T0_35 , B27 IO_L3P_T0_35 , B29 IO_L3N_T0_35 , B33 IO_L5P_T0_35 , B35 IO_L5N_T0_35 , B37 IO_L7P_T1_35 , B39 IO_L7N_T1_35 , B43 IO_L9P_T1_35 , B45 IO_L9N_T1_35 , B47 IO_L11P_T1_35 , B49 IO_L11N_T1_35 , B53 IO_L13P_35 , B55 IO_L13N_35 , B57 IO_L15P_T2_35 , B59 IO_L15N_T2_35 , B63 IO_L17P_T2_35 , B65 IO_L17N_T2_35 , B67 IO_L19P_T3_35 , B69 IO_L19N_T3_35 , B73 IO_L21P_T3_35 , B75 IO_L21N_T3_35 , B77 IO_L23P_T3_35 , B79 IO_L23N_T3_35 
part H pins: B22 IO_L2P_T0_35 , B24 IO_L2N_T0_35 , B26 IO_L4P_T0_35 , B28 IO_L4N_T0_35 , B32 IO_L6P_T0_35 , B34 IO_L6N_T0_35 , B36 IO_L8P_T1_35 , B38 IO_L8N_T1_35 , B42 IO_L10P_T1_35 , B44 IO_L10N_T1_35 , B46 IO_L12P_T1_35 , B48 IO_L12N_T1_35 , B52 IO_L14P_T2_35 , B54 IO_L14N_T2_35 , B56 IO_L16P_T2_35 , B58 IO_L16N_T2_35 , B62 IO_L18P_T2_35 , B64 IO_L18N_T2_35 , B66 IO_L20P_T3_35 , B68 IO_L20N_T3_35 , B72 IO_L22P_T3_35 , B74 IO_L22N_T3_35 , B76 IO_L24P_T3_35 , B78 IO_L24N_T3_35 
part I pins: B5 XADC_INP0 , B6 DXP_0 , B7 XADC_INN0 , B8 DXN_0 , B9 XADC_VCC , B10 GND_ADC
part J pins: B1 VDD_5V , B2 GND, B3 VDD_3.3V , B4 GND, B20 GND, B21 GND, B30 GND, B31 GND, B40 GND, B41 GND, B50 GND, B51 VDDIO_35_PL , B60 GND, B61 GND, B70 GND, B71 GND, B80 GND
part A text: Цепь CN1; Конт.
part B text: Цепь CN1; Конт.
part C text: Цепь CN1; Конт.
part D text: Цепь CN1; Конт.
part E text: Цепь CN1; Конт.
part F text: Цепь CN2; Конт.
part G text: Цепь CN2; Конт.
part H text: Цепь CN2; Конт.
part I text: Цепь CN2; Конт.
part J text: Цепь CN2; Конт.

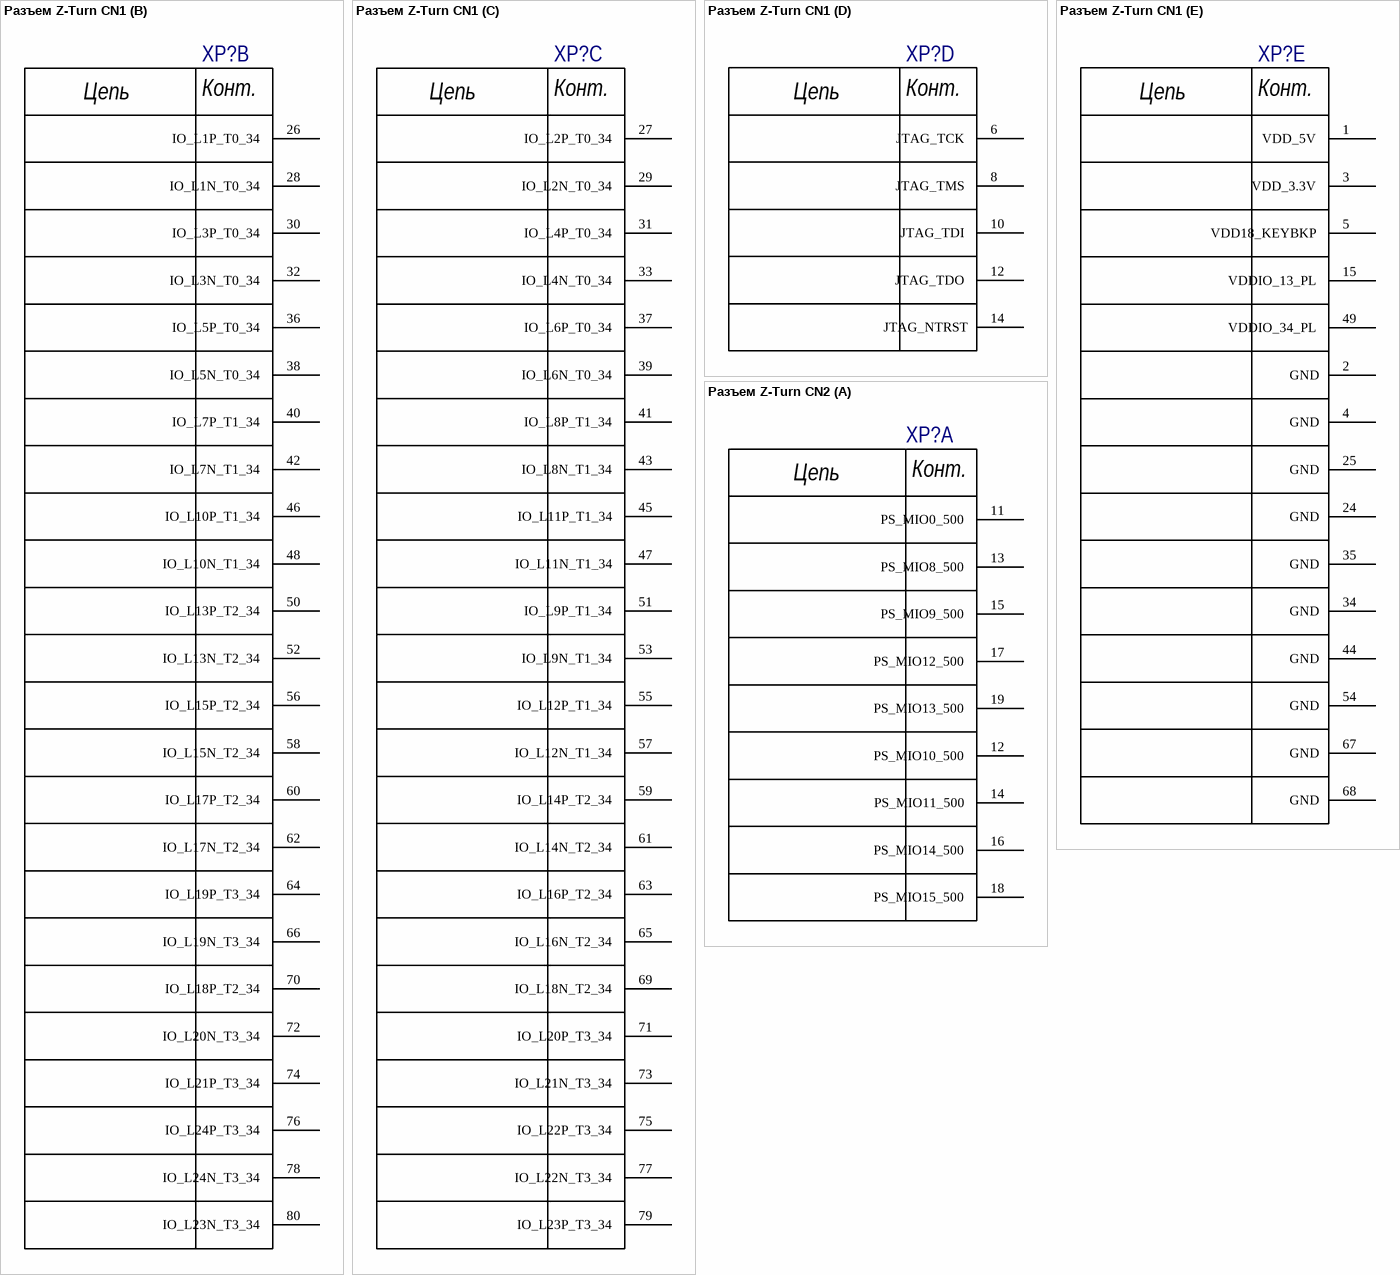
[diagram p22: symbols Разъем Z-Turn CN1 to Разъем Z-Turn CN2]

## Разъем Z-Turn CN1
designator XP?, comment ddd  (value not drawn)
Разъем для платы Z-Turn, штыри 1,27 мм шаг; Manufacturer: *; Manufacturer Part Number: *
part A pins: 7 IO_L11P_T1_13 , 9 IO_L11N_T1_13 , 11 IO_L12P_T1_13 , 13 IO_L12N_T1_13 , 16 IO_L14P_T2_13 , 17 IO_L13P_T2_13 , 18 IO_L14N_T2_13 , 19 IO_L13N_T2_13 , 20 IO_L21P_T3_13 , 21 IO_L15P_T2_13 , 22 IO_L21N_T3_13 , 23 IO_L15N_T2_13 
part B pins: 26 IO_L1P_T0_34 , 28 IO_L1N_T0_34 , 30 IO_L3P_T0_34 , 32 IO_L3N_T0_34 , 36 IO_L5P_T0_34 , 38 IO_L5N_T0_34 , 40 IO_L7P_T1_34 , 42 IO_L7N_T1_34 , 46 IO_L10P_T1_34 , 48 IO_L10N_T1_34 , 50 IO_L13P_T2_34 , 52 IO_L13N_T2_34 , 56 IO_L15P_T2_34 , 58 IO_L15N_T2_34 , 60 IO_L17P_T2_34 , 62 IO_L17N_T2_34 , 64 IO_L19P_T3_34 , 66 IO_L19N_T3_34 , 70 IO_L18P_T2_34 , 72 IO_L20N_T3_34 , 74 IO_L21P_T3_34 , 76 IO_L24P_T3_34 , 78 IO_L24N_T3_34 , 80 IO_L23N_T3_34 
part C pins: 27 IO_L2P_T0_34 , 29 IO_L2N_T0_34 , 31 IO_L4P_T0_34 , 33 IO_L4N_T0_34 , 37 IO_L6P_T0_34 , 39 IO_L6N_T0_34 , 41 IO_L8P_T1_34 , 43 IO_L8N_T1_34 , 45 IO_L11P_T1_34 , 47 IO_L11N_T1_34 , 51 IO_L9P_T1_34 , 53 IO_L9N_T1_34 , 55 IO_L12P_T1_34 , 57 IO_L12N_T1_34 , 59 IO_L14P_T2_34 , 61 IO_L14N_T2_34 , 63 IO_L16P_T2_34 , 65 IO_L16N_T2_34 , 69 IO_L18N_T2_34 , 71 IO_L20P_T3_34 , 73 IO_L21N_T3_34 , 75 IO_L22P_T3_34 , 77 IO_L22N_T3_34 , 79 IO_L23P_T3_34 
part D pins: 6 JTAG_TCK , 8 JTAG_TMS , 10 JTAG_TDI , 12 JTAG_TDO , 14 JTAG_NTRST
part E pins: 1 VDD_5V , 2 GND, 3 VDD_3.3V , 4 GND, 5 VDD18_KEYBKP , 15 VDDIO_13_PL , 24 GND, 25 GND, 34 GND, 35 GND, 44 GND, 49 VDDIO_34_PL , 54 GND, 67 GND, 68 GND
part A text: Цепь; Конт.
part B text: Цепь; Конт.
part C text: Цепь; Конт.
part D text: Цепь; Конт.
part E text: Цепь; Конт.

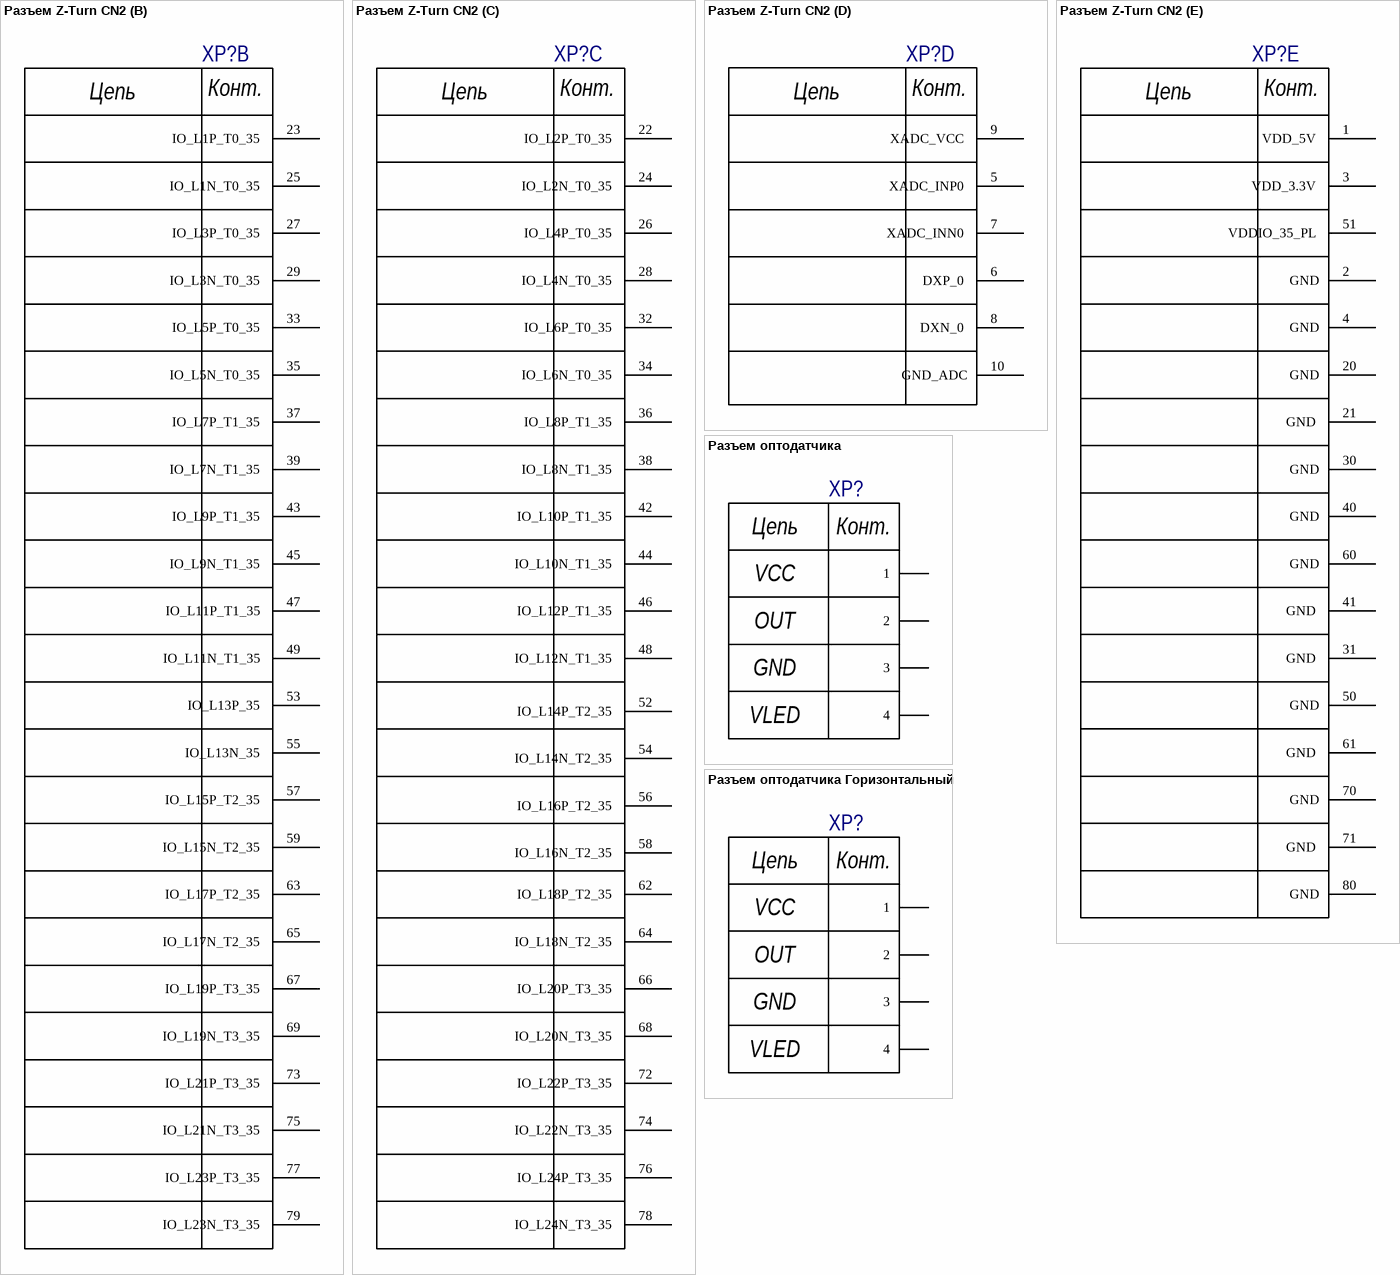
[diagram p23: symbols Разъем Z-Turn CN2 to Разъем оптодатчика Горизонтальный]

## Разъем Z-Turn CN2
designator XP?  (value not drawn)
Разъем для платы Z-Turn, штыри 1,27 мм шаг; Manufacturer: *; Manufacturer Part Number: *
part A pins: 11 PS_MIO0_500 , 12 PS_MIO10_500 , 13 PS_MIO8_500 , 14 PS_MIO11_500 , 15 PS_MIO9_500 , 16 PS_MIO14_500 , 17 PS_MIO12_500 , 18 PS_MIO15_500 , 19 PS_MIO13_500 
part B pins: 23 IO_L1P_T0_35 , 25 IO_L1N_T0_35 , 27 IO_L3P_T0_35 , 29 IO_L3N_T0_35 , 33 IO_L5P_T0_35 , 35 IO_L5N_T0_35 , 37 IO_L7P_T1_35 , 39 IO_L7N_T1_35 , 43 IO_L9P_T1_35 , 45 IO_L9N_T1_35 , 47 IO_L11P_T1_35 , 49 IO_L11N_T1_35 , 53 IO_L13P_35 , 55 IO_L13N_35 , 57 IO_L15P_T2_35 , 59 IO_L15N_T2_35 , 63 IO_L17P_T2_35 , 65 IO_L17N_T2_35 , 67 IO_L19P_T3_35 , 69 IO_L19N_T3_35 , 73 IO_L21P_T3_35 , 75 IO_L21N_T3_35 , 77 IO_L23P_T3_35 , 79 IO_L23N_T3_35 
part C pins: 22 IO_L2P_T0_35 , 24 IO_L2N_T0_35 , 26 IO_L4P_T0_35 , 28 IO_L4N_T0_35 , 32 IO_L6P_T0_35 , 34 IO_L6N_T0_35 , 36 IO_L8P_T1_35 , 38 IO_L8N_T1_35 , 42 IO_L10P_T1_35 , 44 IO_L10N_T1_35 , 46 IO_L12P_T1_35 , 48 IO_L12N_T1_35 , 52 IO_L14P_T2_35 , 54 IO_L14N_T2_35 , 56 IO_L16P_T2_35 , 58 IO_L16N_T2_35 , 62 IO_L18P_T2_35 , 64 IO_L18N_T2_35 , 66 IO_L20P_T3_35 , 68 IO_L20N_T3_35 , 72 IO_L22P_T3_35 , 74 IO_L22N_T3_35 , 76 IO_L24P_T3_35 , 78 IO_L24N_T3_35 
part D pins: 5 XADC_INP0 , 6 DXP_0 , 7 XADC_INN0 , 8 DXN_0 , 9 XADC_VCC , 10 GND_ADC
part E pins: 1 VDD_5V , 2 GND, 3 VDD_3.3V , 4 GND, 20 GND, 21 GND , 30 GND, 31 GND , 40 GND, 41 GND , 50 GND, 51 VDDIO_35_PL , 60 GND, 61 GND , 70 GND, 71 GND , 80 GND
part A text: Цепь; Конт.
part B text: Цепь; Конт.
part C text: Цепь; Конт.
part D text: Цепь; Конт.
part E text: Цепь; Конт.

## Разъем оптодатчика
designator XP?, comment BM04B-SRSS-TB(LF)(SN)  (value not drawn)
CONN HEADER SMD 4POS 1MM; Manufacturer: JST; Number of Positions: 4; Connector Type: Male Pin; Current Rating: 1A; Contact Resistance: 40mR; Voltage Rating (AC): 50V; Insulation Resistance: 100MR; Gender: Male; Pitch: 0.039inch; Supplier 1: Digi-Key; Manufacturer Part Number: BM04B-SRSS-TB(LF)(SN); RoHS: Yes; Category: Connectors; Stock 1: 28453; Pricing 1: 1=0,63000, 10=0,59200, 100=0,45400, 500=0,39480 (USD); Mount: Surface Mount; Contact Plating: Tin,Lead,Copper; Contact Material: Copper Alloy; Color: Natural; Housing Color: Beige; Housing Material: Polyamide; Material: Polyamide; Min Operating Temperature: -25°C; Max Operating Temperature: 85°C; Number of Rows: 1; Termination: Solder; Packaging: Tape and Reel; Number of Contacts: 4; Orientation: Straight; Max Current Rating: 1A; Max Voltage Rating (AC): 50V; Max Voltage Rating (DC): 50V; Length: 6mm; Lead Pitch: 1mm; Depth: 2.9mm; Lead Free: Lead Free; REACH SVHC: No SVHC; Flammability Rating: UL94 V-0; ComponentLink1URL: https://datasheet.ciiva.com/26894/getdatasheetpartid-690899-26894827.pdf?src-supplier=Verical; ComponentLink1Description: https://datasheet.ciiva.com/26894/getdatasheetpartid-690899-26894827.pdf?src-supplier=Verical; ComponentLink2URL: https://datasheet.ciiva.com/26924/getdatasheetpartid-708793-26924043.pdf?src-supplier=Verical; ComponentLink2Description: https://datasheet.ciiva.com/26924/getdatasheetpartid-708793-26924043.pdf?src-supplier=Verical; ComponentLink3URL: https://datasheet.ciiva.com/16211/esr-16211085.pdf?src-supplier=Future+Electronics; ComponentLink3Description: https://datasheet.ciiva.com/16211/esr-16211085.pdf?src-supplier=Future+Electronics; Supplier Part Number 1: 455-1790-1-ND
footprint BM04B-SRSS-TB(LF)(SN) (JST 1.0 mm pitch connector)
pins: 1, 2, 3, 4
text: Цепь; Конт.; VCC; OUT; GND; VLED

## Разъем оптодатчика Горизонтальный
designator XP?, comment BM04B-SRSS-TB(LF)(SN)  (value not drawn)
CONN HEADER SMD 4POS 1MM; Manufacturer: JST; Number of Positions: 4; Connector Type: Male Pin; Current Rating: 1A; Contact Resistance: 40mR; Voltage Rating (AC): 50V; Insulation Resistance: 100MR; Gender: Male; Pitch: 0.039inch; Supplier 1: Digi-Key; Manufacturer Part Number: BM04B-SRSS-TB(LF)(SN); RoHS: Yes; Category: Connectors; Stock 1: 28453; Pricing 1: 1=0,63000, 10=0,59200, 100=0,45400, 500=0,39480 (USD); Mount: Surface Mount; Contact Plating: Tin,Lead,Copper; Contact Material: Copper Alloy; Color: Natural; Housing Color: Beige; Housing Material: Polyamide; Material: Polyamide; Min Operating Temperature: -25°C; Max Operating Temperature: 85°C; Number of Rows: 1; Termination: Solder; Packaging: Tape and Reel; Number of Contacts: 4; Orientation: Straight; Max Current Rating: 1A; Max Voltage Rating (AC): 50V; Max Voltage Rating (DC): 50V; Length: 6mm; Lead Pitch: 1mm; Depth: 2.9mm; Lead Free: Lead Free; REACH SVHC: No SVHC; Flammability Rating: UL94 V-0; ComponentLink1URL: https://datasheet.ciiva.com/26894/getdatasheetpartid-690899-26894827.pdf?src-supplier=Verical; ComponentLink1Description: https://datasheet.ciiva.com/26894/getdatasheetpartid-690899-26894827.pdf?src-supplier=Verical; ComponentLink2URL: https://datasheet.ciiva.com/26924/getdatasheetpartid-708793-26924043.pdf?src-supplier=Verical; ComponentLink2Description: https://datasheet.ciiva.com/26924/getdatasheetpartid-708793-26924043.pdf?src-supplier=Verical; ComponentLink3URL: https://datasheet.ciiva.com/16211/esr-16211085.pdf?src-supplier=Future+Electronics; ComponentLink3Description: https://datasheet.ciiva.com/16211/esr-16211085.pdf?src-supplier=Future+Electronics; Supplier Part Number 1: 455-1790-1-ND
footprint SM04B-SRSS-TB(LF)(SN) (JST 1.0 mm pitch connector)
pins: 1, 2, 3, 4
text: Цепь; Конт.; VCC; OUT; GND; VLED

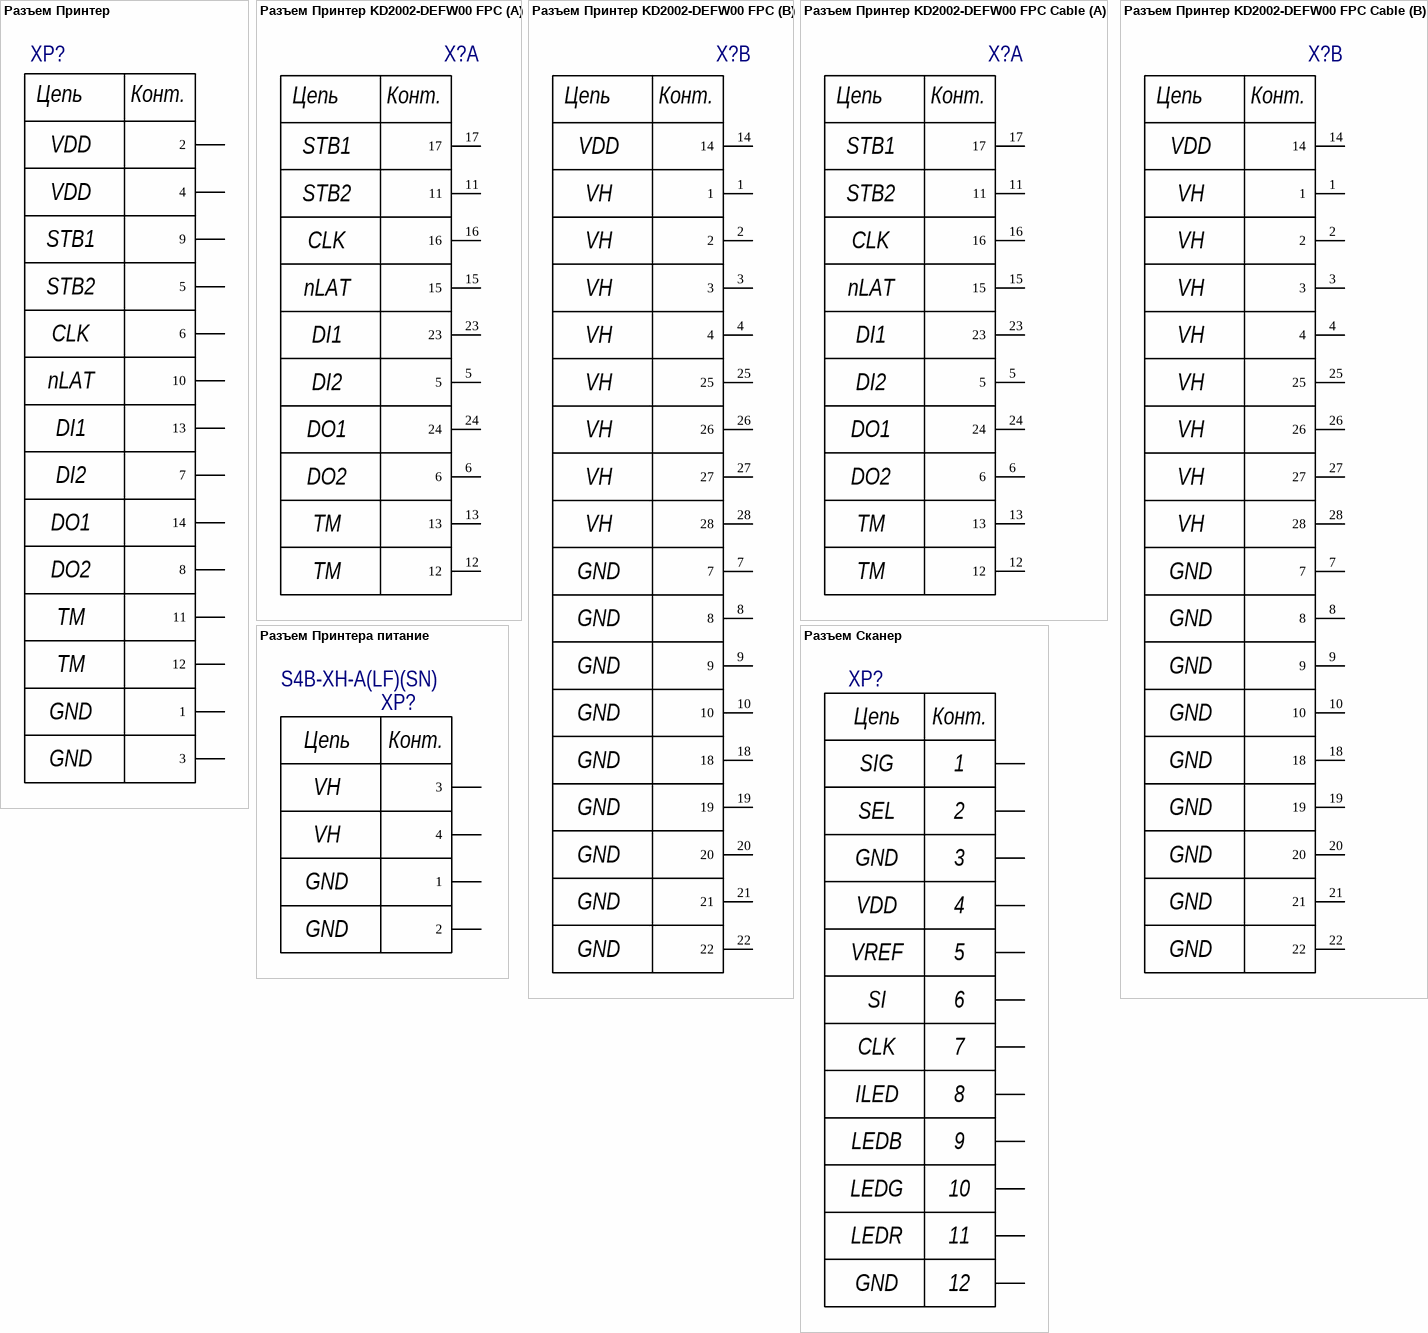
[diagram p24: symbols Разъем Принтер to Разъем Сканер]

## Разъем Принтер
designator XP?
Разъем для печатающей головы; Max Current Rating: 3A; Number of Positions: 20; Max Voltage Rating (AC): 50V; Pitch: 0.100inch; Supplier 1: Digi-Key; Min Operating Temperature: -25°C; Max Operating Temperature: 85°C; Number of Rows: 2
footprint IDC-20 (2.54 мм разъем)
footprint IDC-20 Right angle (2.54 мм разъем правый)
pins: 1 (power), 2 (power), 3 (power), 4 (power), 5, 6, 7, 8, 9, 10, 11, 12, 13, 14
text: Цепь; Конт.; VDD; STB1; STB2; CLK; nLAT; DI1; DI2; DO1; DO2; TM; GND

## Разъем Принтер KD2002-DEFW00 FPC
designator X?  (value not drawn)
Conn FPC Connector SKT 28 POS 2.5mm Solder RA Thru-Hole Tray; Manufacturer: Molex; Actuator Material: PBT,Polyester,Polybutylene; Contact Resistance: 20mR; Current Rating: 1A; Voltage Rating: 200V; Number of Positions: 28; Wire/Cable Type: Straight; Supplier 1: Digi-Key; Manufacturer Part Number: 39-53-2284; RoHS: Yes; Category: FFC / FPC; Stock 1: 1984; Pricing 1: 1=2,64000, 10=2,39800, 25=2,25120, 50=2,15340, 100=2,05550, 350=1,85971, 700=1,71290, 1050=1,46820, 2800=1,37032 (USD); Mount: Through Hole; Contact Material: Bronze; Contact Plating: Tin; Housing Color: Natural; Housing Material: Polybutylene; Min Operating Temperature: -20°C; Max Operating Temperature: 80°C; Number of Rows: 1; Packaging: Tray; Package Quantity: 350; Termination: Solder; Orientation: Right Angle; Length: 40.75mm; Pitch: 2.5mm; Depth: 9.8mm; Radiation Hardening: No; Flammability Rating: UL94 V-0; ComponentLink1URL: https://datasheet.ciiva.com/3112/0039532284-ffc-fpc-connectors-3112033.pdf?src-supplier=Avnet; ComponentLink1Description: https://datasheet.ciiva.com/3112/0039532284-ffc-fpc-connectors-3112033.pdf?src-supplier=Avnet; ComponentLink2URL: https://datasheet.ciiva.com/5137/0039532284-ffc-fpc-connectors-160323-5137138.pdf?src-supplier=Mouser; ComponentLink2Description: https://datasheet.ciiva.com/5137/0039532284-ffc-fpc-connectors-160323-5137138.pdf?src-supplier=Mouser; ComponentLink3URL: https://datasheet.ciiva.com/11745/0900766b80d5c280-11745506.pdf?src-supplier=RSComponents; ComponentLink3Description: https://datasheet.ciiva.com/11745/0900766b80d5c280-11745506.pdf?src-supplier=RSComponents; ComponentLink4URL: https://datasheet.ciiva.com/16123/413980039532284-ffc-fpc-nectors-16123787.pdf?src-supplier=Onlinecomponents.com; ComponentLink4Description: https://datasheet.ciiva.com/16123/413980039532284-ffc-fpc-nectors-16123787.pdf?src-supplier=Onlinecomponents.com; ComponentLink5URL: https://datasheet.ciiva.com/26288/66100039532284-ffc-fpc-nectors-26288859.pdf?src-supplier=Onlinecomponents.com; ComponentLink5Description: https://datasheet.ciiva.com/26288/66100039532284-ffc-fpc-nectors-26288859.pdf?src-supplier=Onlinecomponents.com; ComponentLink6URL: https://datasheet.ciiva.com/16660/0039532284-ffc-fpc-connectors-16660085.pdf?src-supplier=Avnet+Europe; ComponentLink6Description: https://datasheet.ciiva.com/16660/0039532284-ffc-fpc-connectors-16660085.pdf?src-supplier=Avnet+Europe; ComponentLink7URL: https://datasheet.ciiva.com/10366/0039532284-ffc-fpc-connectors-10366634.pdf?src-supplier=Avnet; ComponentLink7Description: https://datasheet.ciiva.com/10366/0039532284-ffc-fpc-connectors-10366634.pdf?src-supplier=Avnet; ComponentLink8URL: https://datasheet.ciiva.com/671/039532284-sd-671724.pdf?src-supplier=Digi-Key; ComponentLink8Description: https://datasheet.ciiva.com/671/039532284-sd-671724.pdf?src-supplier=Digi-Key; Supplier Part Number 1: WM3965-ND
footprint Molex 0039532284 (CONN FFC TOP 28POS 1.25MM R/A)
part A pins: 5, 6, 11, 12, 13, 15, 16, 17, 23, 24
part B pins: 1, 2, 3, 4, 7, 8, 9, 10, 14, 18, 19, 20, 21, 22, 25, 26, 27, 28
part A text: Цепь; Конт.; STB1; STB2; CLK; nLAT; DI1; DI2; DO1; DO2; TM
part B text: Цепь; Конт.; VDD; VH; GND

## Разъем Принтер KD2002-DEFW00 FPC Cable
designator X?  (value not drawn)  (no BOM)
Контакты на гибком шлейфе
footprint FPC_28x1.5
part A pins: 5, 6, 11, 12, 13, 15, 16, 17, 23, 24
part B pins: 1, 2, 3, 4, 7, 8, 9, 10, 14, 18, 19, 20, 21, 22, 25, 26, 27, 28
part A text: Цепь; Конт.; STB1; STB2; CLK; nLAT; DI1; DI2; DO1; DO2; TM
part B text: Цепь; Конт.; VDD; VH; GND

## Разъем Принтера питание
designator XP?, comment S4B-XH-A(LF)(SN)
CONN HEADER R/A 4POS 2.5MM; Manufacturer: JST; Current Rating: 3A; Voltage Rating: 250V; Contact Resistance: 20mR; Number of Positions: 4; Insulation Resistance: 1GR; Gender: Male; Connector Type: Male Pin; Wire/Cable Gauge: 22AWG; Supplier 1: Digi-Key; Manufacturer Part Number: S4B-XH-A(LF)(SN); RoHS: Yes; Category: Headers and Wire Housings; Stock 1: 9755; Pricing 1: 1=0,27000, 10=0,25700, 100=0,17850, 500=0,15100, 1000=0,12355, 5000=0,10982, 10000=0,09953 (USD); Mount: Through Hole; Contact Material: Brass; Color: Natural; Contact Plating: Tin,Lead,Copper; Housing Color: White; Housing Material: Polyamide; Min Operating Temperature: -25°C; Max Operating Temperature: 85°C; Package Quantity: 500; Number of Rows: 1; Packaging: Bulk; Voltage Rating (AC): 250V; Max Current Rating: 3A; Termination: Press-Fit; Number of Contacts: 4; Max Voltage Rating (AC): 250V; Orientation: Right Angle; Length: 12.4mm; Pitch: 2.5mm; Lead Pitch: 2.5mm; Depth: 11.5mm; REACH SVHC: No SVHC; Lead Free: Lead Free; ComponentLink1URL: https://datasheet.ciiva.com/726/exh-726400.pdf?src-supplier=Digi-Key; ComponentLink1Description: https://datasheet.ciiva.com/726/exh-726400.pdf?src-supplier=Digi-Key; ComponentLink2URL: https://datasheet.ciiva.com/26924/getdatasheetpartid-449045-26924078.pdf?src-supplier=Verical; ComponentLink2Description: https://datasheet.ciiva.com/26924/getdatasheetpartid-449045-26924078.pdf?src-supplier=Verical; ComponentLink3URL: https://datasheet.ciiva.com/8052/5448-8052236.pdf?src-supplier=Element14; ComponentLink3Description: https://datasheet.ciiva.com/8052/5448-8052236.pdf?src-supplier=Element14; Supplier Part Number 1: 455-2243-ND
footprint S4B-XH-A
pins: 1, 2, 3, 4
text: Цепь; Конт.; VH; GND

## Разъем Сканер
designator XP?, comment BM12B-SRSS-TB(LF)(SN)  (value not drawn)
12 Positions Header, Shrouded Connector 0.039" (1.00mm) Surface Mount Tin; Manufacturer: JST; Number of Positions: 12; Connector Type: Male Pin; Pitch: 0.039inch; Supplier 1: Digi-Key; Manufacturer Part Number: BM12B-SRSS-TB(LF)(SN); RoHS: Yes; Category: Connectors; Stock 1: 7820; Pricing 1: 1=1,20000, 10=1,05600, 100=0,91070, 500=0,74512 (USD); Mount: Surface Mount; Color: Natural; Contact Plating: Tin; Contact Material: Copper Alloy; Housing Color: Natural; Housing Material: Nylon; Number of Rows: 1; Packaging: Tape and Reel; Termination: Solder; Number of Contacts: 12; Lead Free: Lead Free; ComponentLink1URL: https://datasheet.ciiva.com/11752/0900766b8063507b-11752074.pdf?src-supplier=RSComponents; ComponentLink1Description: https://datasheet.ciiva.com/11752/0900766b8063507b-11752074.pdf?src-supplier=RSComponents; ComponentLink2URL: https://datasheet.ciiva.com/16420/bm12b-srss-tblfsn-16420661.pdf?src-supplier=Future+Electronics; ComponentLink2Description: https://datasheet.ciiva.com/16420/bm12b-srss-tblfsn-16420661.pdf?src-supplier=Future+Electronics; ComponentLink3URL: https://datasheet.ciiva.com/730/esr-730620.pdf?src-supplier=Digi-Key; ComponentLink3Description: https://datasheet.ciiva.com/730/esr-730620.pdf?src-supplier=Digi-Key; ComponentLink4URL: https://datasheet.ciiva.com/712/esr-712686.pdf?src-supplier=Digi-Key; ComponentLink4Description: https://datasheet.ciiva.com/712/esr-712686.pdf?src-supplier=Digi-Key; ComponentLink5URL: https://datasheet.ciiva.com/712/esr-712687.pdf?src-supplier=Digi-Key; ComponentLink5Description: https://datasheet.ciiva.com/712/esr-712687.pdf?src-supplier=Digi-Key; Supplier Part Number 1: 455-1798-1-ND
footprint BM12B-SRSS-TB(LF)(SN) (JST 1.0 mm pitch connector)
pins: 1 SIG, 2 SEL, 3 GND, 4 VDD, 5 VREF, 6 SI, 7 CLK, 8 ILED, 9 LEDB, 10 LEDG, 11 LEDR, 12 GND
text: Цепь; Конт.

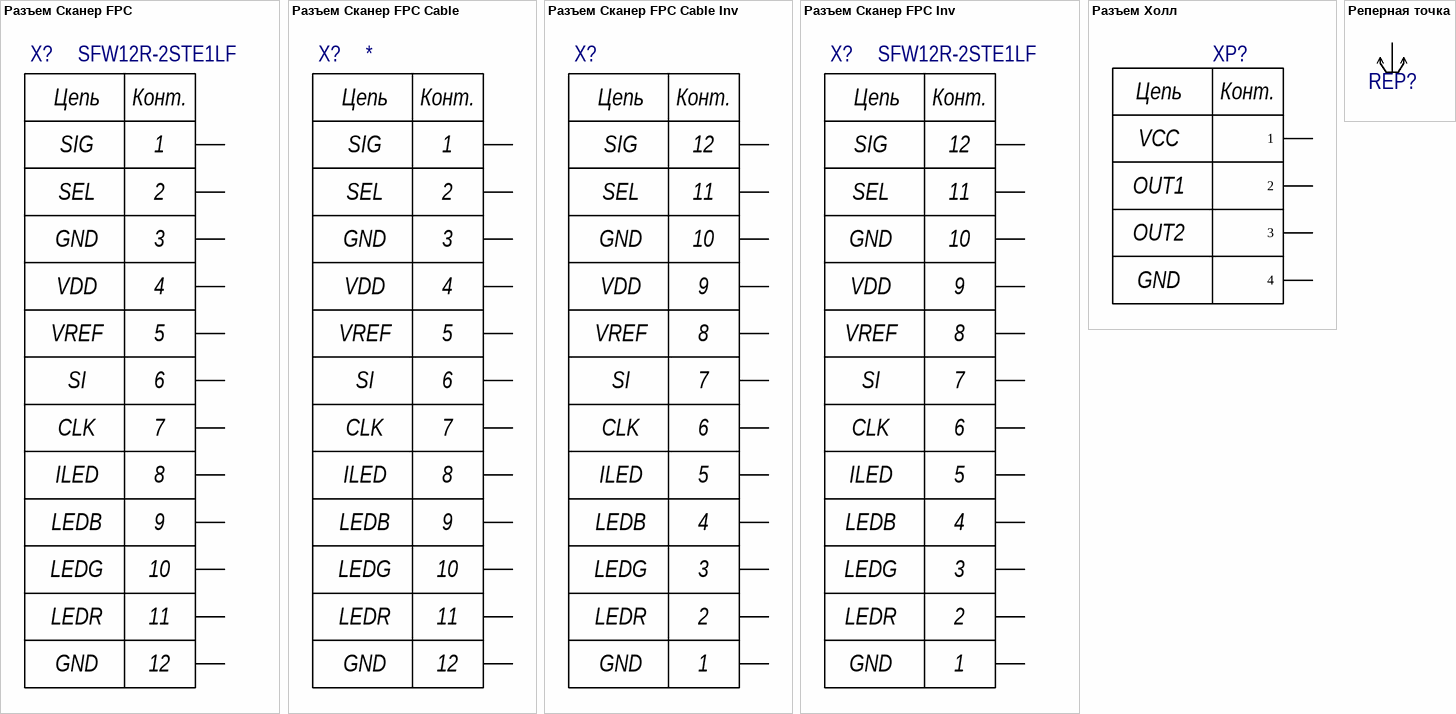
[diagram p25: symbols Разъем Сканер FPC to Реперная точка]